# Altium schematic symbol library STM32F0.SchLib: 206 symbols
Pins are listed as number, name and electrical type; pins without a type are passive.

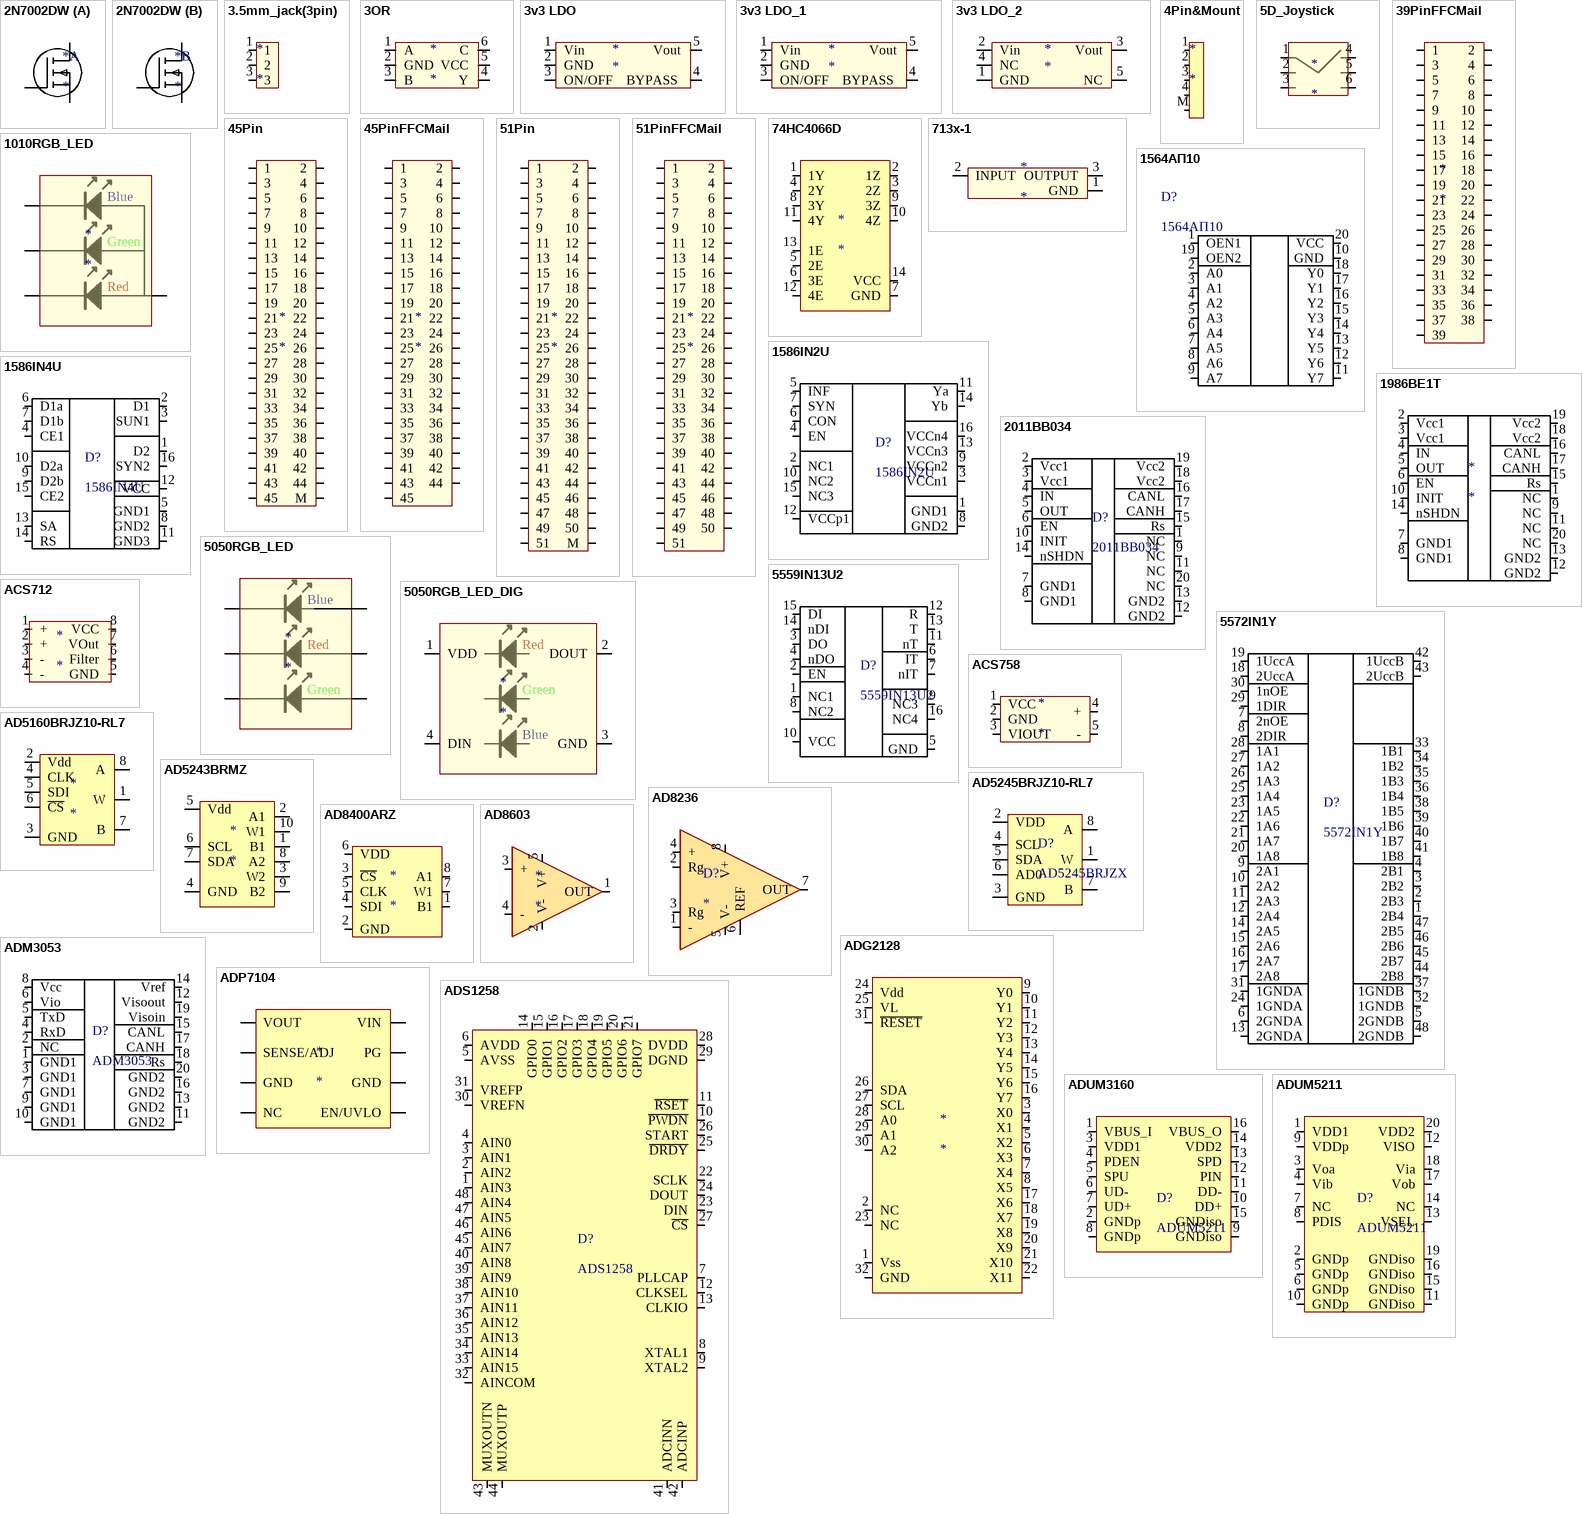
[diagram p0: symbols 2N7002DW to ADUM5211]

## 2N7002DW
designator *
footprint SOT-363
part A pins: 1 S, 2 G, 6 D
part B pins: 3 D, 4 S, 5 G

## 3.5mm_jack(3pin)
designator *
footprint 3.5mmJack(3pin)
pins: 1, 2, 3

## 3OR
designator *
footprint SOT23-6
pins: 1 A, 2 GND, 3 B, 4 Y, 5 VCC, 6 C

## 3v3 LDO
designator *
footprint SOT23-5
pins: 1 Vin, 2 GND, 3 ON/OFF, 4 BYPASS , 5 Vout

## 3v3 LDO_1
designator *
footprint SOT23-5
pins: 1 Vin, 2 GND, 3 ON/OFF, 4 BYPASS , 5 Vout

## 3v3 LDO_2
designator *
footprint SOT23-5
pins: 1 GND, 2 Vin, 3 Vout, 4 NC, 5 NC

## 4Pin&Mount
designator *
footprint FPC_V_05_4
pins: 1, 2, 3, 4, M 5

## 5D_Joystick
designator *
footprint 5D_Joystick
pins: 1 Com, 2 1, 3 2, 4, 5, 6

## 39PinFFCMail
designator *
footprint FFC_03_39_Mail
footprint FFC_0.3_39
pins: 1, 2, 3, 4, 5, 6, 7, 8, 9, 10, 11, 12, 13, 14, 15, 16, 17, 18, 19, 20, 21, 22, 23, 24, 25, 26, 27, 28, 29, 30, 31, 32, 33, 34, 35, 36, 37, 38, 39

## 45Pin
designator *
footprint FFC_0.3_45
pins: 1, 2, 3, 4, 5, 6, 7, 8, 9, 10, 11, 12, 13, 14, 15, 16, 17, 18, 19, 20, 21, 22, 23, 24, 25, 26, 27, 28, 29, 30, 31, 32, 33, 34, 35, 36, 37, 38, 39, 40, 41, 42, 43, 44, 45, M

## 45PinFFCMail
designator *
footprint FFC_03_45_Mail
pins: 1, 2, 3, 4, 5, 6, 7, 8, 9, 10, 11, 12, 13, 14, 15, 16, 17, 18, 19, 20, 21, 22, 23, 24, 25, 26, 27, 28, 29, 30, 31, 32, 33, 34, 35, 36, 37, 38, 39, 40, 41, 42, 43, 44, 45

## 51Pin
designator *
footprint FFC_0.3_51
pins: 1, 2, 3, 4, 5, 6, 7, 8, 9, 10, 11, 12, 13, 14, 15, 16, 17, 18, 19, 20, 21, 22, 23, 24, 25, 26, 27, 28, 29, 30, 31, 32, 33, 34, 35, 36, 37, 38, 39, 40, 41, 42, 43, 44, 45, 46, 47, 48, 49, 50, 51, M

## 51PinFFCMail
designator *
footprint FFC_03_51_Mail
pins: 1, 2, 3, 4, 5, 6, 7, 8, 9, 10, 11, 12, 13, 14, 15, 16, 17, 18, 19, 20, 21, 22, 23, 24, 25, 26, 27, 28, 29, 30, 31, 32, 33, 34, 35, 36, 37, 38, 39, 40, 41, 42, 43, 44, 45, 46, 47, 48, 49, 50, 51

## 74HC4066D
designator *
footprint TSSOP14
pins: 1 1Y, 2 1Z, 3 2Z, 4 2Y, 5 2E, 6 3E, 7 GND, 8 3Y, 9 3Z, 10 4Z, 11 4Y, 12 4E, 13 1E, 14 VCC

## 713x-1
designator *
footprint SOT89-BCE
pins: 1 GND, 2 INPUT, 3 OUTPUT

## 1010RGB_LED
designator *
footprint 1010RGB_Led
pins: 1, 2, 3, 4
text: Blue; Green; Red

## 1564АП10
designator D?
pins: 1 OEN1, 2 A0, 3 A1, 4 A2, 5 A3, 6 A4, 7 A5, 8 A6, 9 A7, 10 GND, 11 Y7, 12 Y6, 13 Y5, 14 Y4, 15 Y3, 16 Y2, 17 Y1, 18 Y0, 19 OEN2, 20 VCC

## 1586IN2U
designator D?
pins: 1 GND1, 2 NC1, 3 VCCn1, 4 EN, 5 INF, 6 CON, 7 SYN, 8 GND2, 9 VCCn2, 10 NC2, 11 Ya, 12 VCCp1, 13 VCCn3, 14 Yb, 15 NC3, 16 VCCn4

## 1586IN4U
designator D?
pins: 1 D2, 2 D1, 3 SUN1, 4 CE1, 5 GND1, 6 D1a, 7 D1b, 8 GND2, 9 D2b, 10 D2a, 11 GND3, 12 VCC, 13 SA, 14 RS, 15 CE2, 16 SYN2

## 1986ВЕ1Т
designator *
pins: 1 NC, 2 Vcc1, 3 Vcc1, 4 IN, 5 OUT, 6 EN, 7 GND1, 8 GND1, 9 NC, 10 INIT, 11 NC, 12 GND2, 13 GND2, 14 nSHDN, 15 Rs, 16 CANL, 17 CANH, 18 Vcc2, 19 Vcc2, 20 NC

## 2011BB034
designator D?
pins: 1 NC, 2 Vcc1, 3 Vcc1, 4 IN, 5 OUT, 6 EN, 7 GND1, 8 GND1, 9 NC, 10 INIT, 11 NC, 12 GND2, 13 GND2, 14 nSHDN, 15 Rs, 16 CANL, 17 CANH, 18 Vcc2, 19 Vcc2, 20 NC

## 5050RGB_LED
designator *
footprint RGB_5050
pins: 1, 2, 3, 4, 5, 6
text: Blue; Red; Green

## 5050RGB_LED_DIG
designator *
footprint RGB_5050_DIG
pins: 1 VDD, 2 DOUT, 3 GND, 4 DIN
text: Red; Green; Blue

## 5559IN13U2
designator D?
pins: 1 NC1, 2 EN, 3 DO, 4 nDO, 5 GND, 6 IT, 7 nIT, 8 NC2, 9 NC3, 10 VCC, 11 nT, 12 R, 13 T, 14 nDI, 15 DI, 16 NC4

## 5572IN1Y
designator D?
pins: 1 2B4, 2 2B3, 3 2B2, 4 2B1, 5 2GNDB, 6 2GNDA, 7 2nOE, 8 2DIR, 9 2A1, 10 2A2, 11 2A3, 12 2A4, 13 2GNDA, 14 2A5, 15 2A6, 16 2A7, 17 2A8, 18 2UccA, 19 1UccA, 20 1A8, 21 1A7, 22 1A6, 23 1A5, 24 1GNDA, 25 1A4, 26 1A3, 27 1A2, 28 1A1, 29 1DIR, 30 1nOE, 31 1GNDA, 32 1GNDB, 33 1B1, 34 1B2, 35 1B3, 36 1B4, 37 1GNDB, 38 1B5, 39 1B6, 40 1B7, 41 1B8, 42 1UccB, 43 2UccB, 44 2B8, 45 2B7, 46 2B6, 47 2B5, 48 2GNDB

## ACS712
designator *
footprint SO8
pins: 1 +, 2 +, 3 -, 4 -, 5 GND, 6 Filter, 7 VOut, 8 VCC

## ACS758
designator *
footprint PFF
pins: 1 VCC, 2 GND, 3 VIOUT, 4 +, 5 -

## AD5160BRJZ10-RL7
designator *
footprint SOT23-8
pins: 1 W, 2 Vdd, 3 GND, 4 CLK, 5 SDI, 6 ~{CS}, 7 B, 8 A

## AD5243BRMZ
designator *
footprint MSOP10
pins: 1 B1, 2 A1, 3 W2, 4 GND, 5 Vdd, 6 SCL, 7 SDA, 8 A2, 9 B2, 10 W1

## AD5245BRJZ10-RL7
designator D?, comment AD5245BRJZX
footprint SOT23-8
pins: 1 W, 2 VDD, 3 GND, 4 SCL, 5 SDA, 6 AD0, 7 B, 8 A

## AD8236
designator D?
footprint MSOP8
pins: 1 -, 2 Rg, 3 Rg, 4 +, 5 V-, 6 REF, 7 OUT, 8 V+

## AD8400ARZ
designator *
footprint SO8
pins: 1 B1, 2 GND, 3 ~{CS}, 4 SDI, 5 CLK, 6 VDD, 7 W1, 8 A1

## AD8603
designator *
footprint SOT23-5
pins: 1 OUT, 2 V-, 3 +, 4 -, 5 V+

## ADG2128
designator *
pins: 1 Vss, 2 NC, 3 X0, 4 X1, 5 X2, 6 X3, 7  X4, 8 X5, 9 Y0, 10 Y1, 11 Y2, 12 Y3, 13 Y4, 14 Y5, 15 Y6, 16 Y7, 17 X6, 18 X7, 19 X8, 20 X9, 21 X10, 22 X11, 23 NC, 24 Vdd, 25 VL, 26 SDA, 27 SCL, 28 A0, 29 A1, 30 A2, 31 ~{RESET}, 32 GND

## ADM3053
designator D?
pins: 1 GND1, 2 NC, 3 GND1, 4 RxD, 5 TxD, 6 Vio, 7 GND1, 8 Vcc, 9 GND1, 10 GND1, 11 GND2, 12 Visoout, 13 GND2, 14 Vref, 15 CANL, 16 GND2, 17 CANH, 18 Rs, 19 Visoin, 20 GND2

## ADP7104
designator *
footprint LFCSP8_3x3
pins: 1 VOUT, 2 SENSE/ADJ, 3 GND, 4 NC (power), 5 EN/UVLO, 6 GND, 7 PG, 8 VIN (power)

## ADS1258
designator D?
footprint PQFPN48
pins: 1 AIN3, 2 AIN2, 3 AIN1, 4 AIN0, 5 AVSS, 6 AVDD, 7 PLLCAP, 8 XTAL1, 9 XTAL2, 10 ~{PWDN}, 11 ~{RSET}, 12 CLKSEL, 13 CLKIO, 14 GPIO0, 15 GPIO1, 16 GPIO2, 17 GPIO3, 18 GPIO4, 19 GPIO5, 20 GPIO6, 21 GPIO7, 22 SCLK, 23 DIN, 24 DOUT, 25 ~{DRDY}, 26 START, 27 ~{CS}, 28 DVDD, 29 DGND, 30 VREFN, 31 VREFP, 32 AINCOM, 33 AIN15, 34 AIN14, 35 AIN13, 36 AIN12, 37 AIN11, 38 AIN10, 39 AIN9, 40 AIN8, 41 ADCINN, 42 ADCINP, 43 MUXOUTN, 44 MUXOUTP, 45 AIN7, 46 AIN6, 47 AIN5, 48 AIN4

## ADUM3160
designator D?, comment ADUM5211
footprint SO16W
pins: 1 VBUS_I, 2 GNDp, 3 VDD1, 4 PDEN, 5 SPU, 6 UD-, 7 UD+, 8 GNDp, 9 GNDiso, 10 DD+, 11 DD-, 12 PIN, 13 SPD, 14 VDD2, 15 GNDiso, 16 VBUS_O

## ADUM5211
designator D?
footprint SSOP-20
pins: 1 VDD1, 2 GNDp, 3 Voa, 4 Vib, 5 GNDp, 6 GNDp, 7 NC, 8 PDIS, 9 VDDp, 10 GNDp, 11 GNDiso, 12 VISO, 13 VSEL, 14 NC, 15 GNDiso, 16 GNDiso, 17 Vob, 18 Via, 19 GNDiso, 20 VDD2

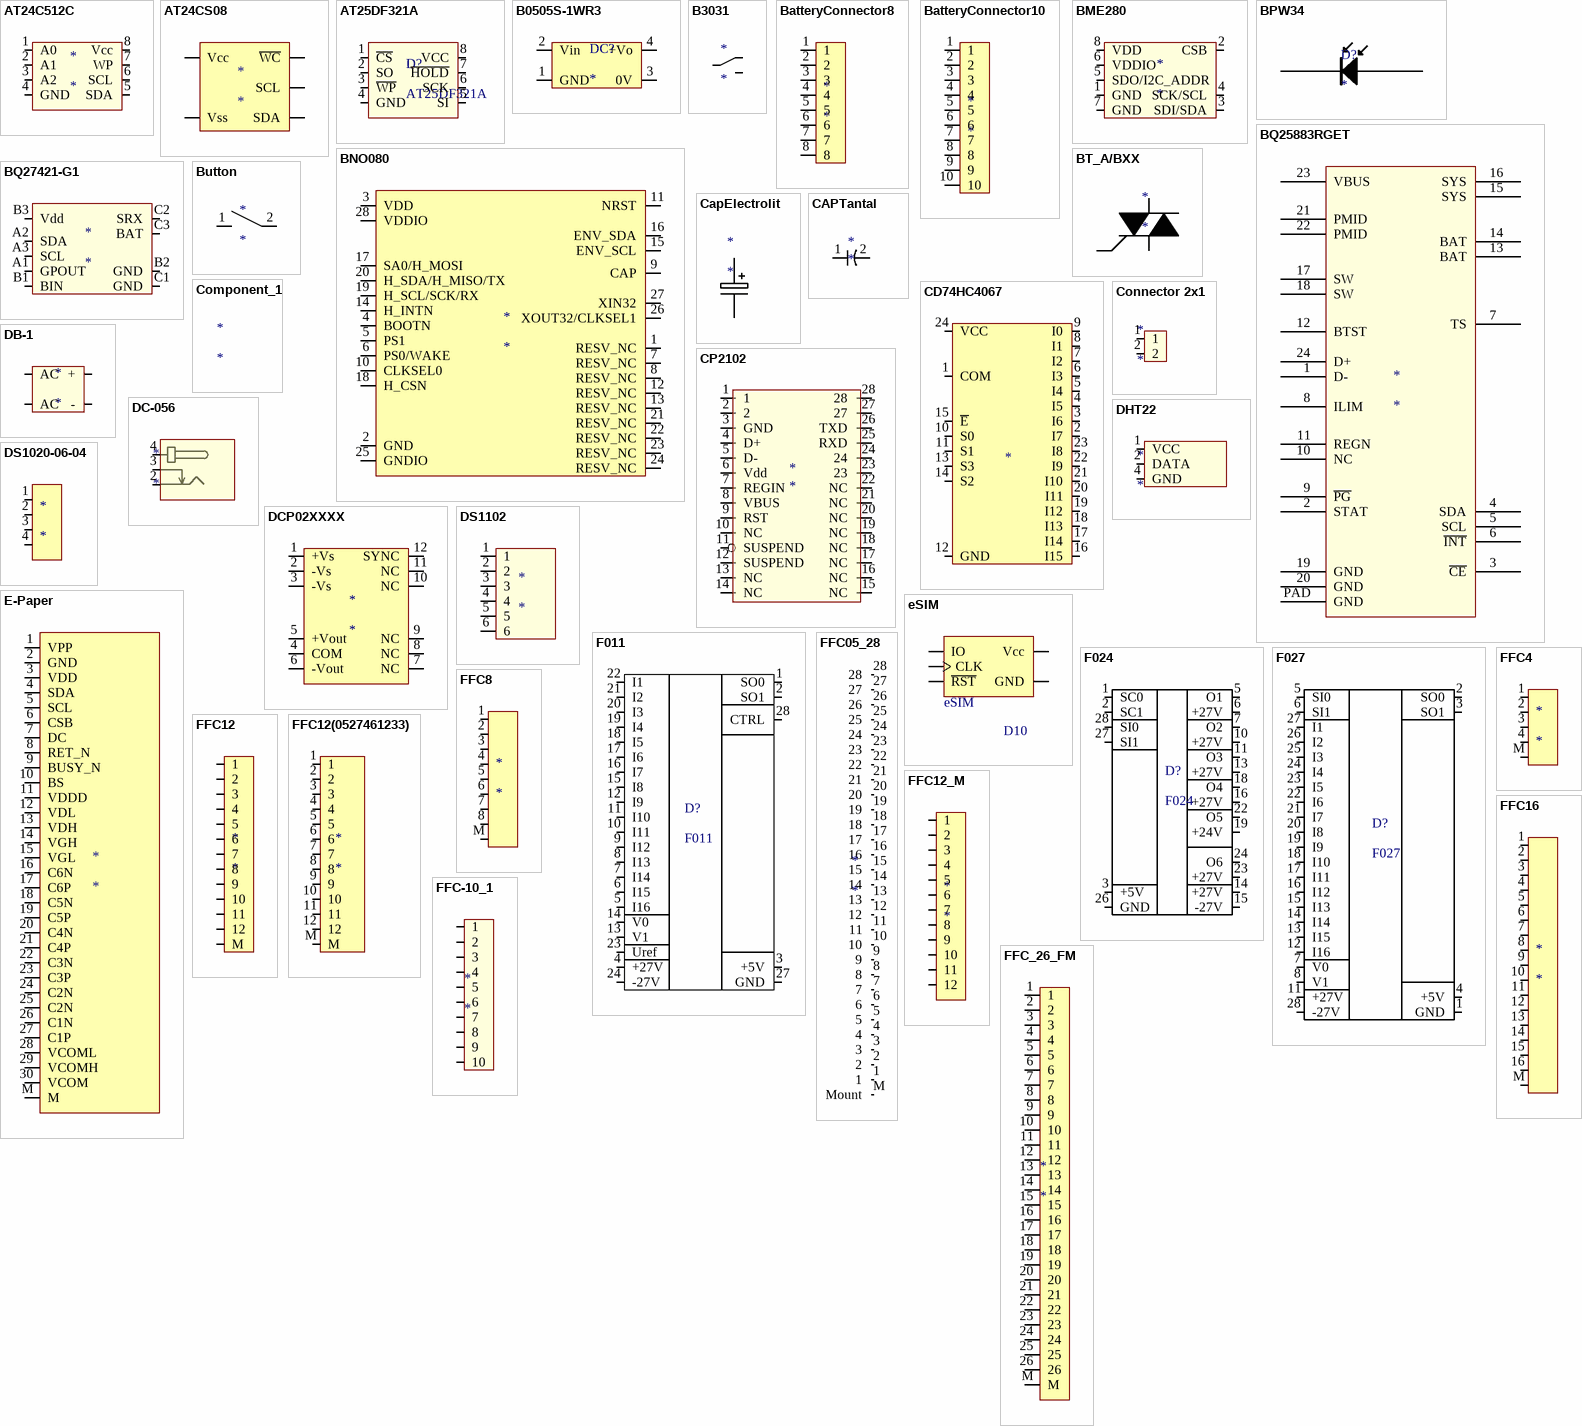
[diagram p1: symbols AT24C512C to FFC_26_FM]

## AT24C512C
designator *
footprint SO8
pins: 1 A0, 2 A1, 3 A2, 4 GND, 5 SDA, 6 SCL, 7 WP, 8 Vcc

## AT24CS08
designator *
pins: 4 Vss (power), 5 SDA, 6 SCL, 7 ~{WC}, 8 Vcc (power)

## AT25DF321A
designator D?
footprint SO8
pins: 1 ~{CS}, 2 SO, 3 ~{WP}, 4 GND, 5 SI, 6 SCK, 7 ~{HOLD}, 8 VCC

## B0505S-1WR3
designator DC?
footprint DC-DC-1WR
pins: 1 GND, 2 Vin, 3 0V, 4 +Vo

## B3031
designator *
footprint B3031
pins: 0, 1, 2

## BatteryConnector8
designator *
footprint BatteryConnector 8
pins: 1, 2, 3, 4, 5, 6, 7, 8

## BatteryConnector10
designator *
footprint BatteryConnector 10
pins: 1, 2, 3, 4, 5, 6, 7, 8, 9, 10

## BME280
designator *
footprint BME280
pins: 1 GND, 2 CSB, 3 SDI/SDA, 4 SCK/SCL, 5 SDO/I2C_ADDR, 6 VDDIO, 7 GND, 8 VDD

## BNO080
designator *
footprint LGA28
pins: 1 RESV_NC, 2 GND, 3 VDD, 4 BOOTN, 5 PS1, 6 PS0/WAKE, 7 RESV_NC, 8 RESV_NC, 9 CAP, 10 CLKSEL0, 11 NRST, 12 RESV_NC, 13 RESV_NC, 14 H_INTN, 15 ENV_SCL, 16 ENV_SDA, 17 SA0/H_MOSI, 18 H_CSN, 19 H_SCL/SCK/RX, 20 H_SDA/H_MISO/TX, 21 RESV_NC, 22 RESV_NC, 23 RESV_NC, 24 RESV_NC, 25 GNDIO, 26 XOUT32/CLKSEL1, 27 XIN32, 28 VDDIO

## BPW34
designator D?
footprint BPW34
pins: +, -

## BQ25883RGET
designator *
footprint VQFN24
pins: 1 D-, 2 STAT, 3 ~{CE}, 4 SDA, 5 SCL, 6 ~{INT}, 7 TS, 8 ILIM, 9 ~{PG}, 10 NC, 11 REGN, 12 BTST, 13 BAT, 14 BAT, 15 SYS, 16 SYS, 17 SW, 18 SW, 19 GND, 20 GND, 21 PMID, 22 PMID, 23 VBUS, 24 D+, PAD GND

## BQ27421-G1
designator *
footprint DSBGA9
pins: A1 GPOUT, A2 SDA, A3 SCL, B1 BIN, B2 GND, B3 Vdd, C1 GND, C2 SRX, C3 BAT

## BT_A/BXX
designator *
footprint TO-220V
footprint TO-220VO
pins: 1, 2, 3

## Button
designator *
footprint KLS7-TS6606
footprint FlexButton
footprint FlexButton_2mm
footprint Button 3x2x0.6
pins: 1, 2

## CapElectrolit
designator *
footprint CAP4x7
footprint CAP8x11.5
footprint CAP5x11
footprint CAP3050
pins: +, -

## CAPTantal
designator *
footprint CAPTantalum_D
footprint CAPTantalum_C
pins: 1, 2

## CD74HC4067
designator ?
footprint SO24
pins: 1 COM, 2 I7, 3 I6, 4 I5, 5 I4, 6 I3, 7 I2, 8 I1, 9 I0, 10 S0, 11 S1, 12 GND, 13 S3, 14 S2, 15 ~{E}, 16 I15, 17 I14, 18 I13, 19 I12, 20 I11, 21 I10, 22 I9, 23 I8, 24 VCC

## Component_1
designator *

## Connector 2x1
designator *
footprint AWG350-021-14
footprint DS1073-01-2x1-MR2T6
footprint DG390-5.0-02P
pins: 1, 2

## CP2102
designator *
footprint CP2102
pins: 1, 2, 3 GND, 4 D+, 5 D-, 6 Vdd, 7 REGIN, 8 VBUS, 9 RST, 10 NC, 11 SUSPEND, 12 SUSPEND, 13 NC, 14 NC, 15 NC, 16 NC, 17 NC, 18 NC, 19 NC, 20 NC, 21 NC, 22 NC, 23, 24, 25 RXD, 26 TXD, 27, 28

## DB-1
designator *
footprint DB-1
pins: +, -, AC1 AC, AC2 AC

## DC-056
designator *
footprint DC-056
pins: 2 -, 3, 4 +

## DCP02XXXX
designator *
footprint DCP02XXXXU
pins: 1 +Vs, 2 -Vs, 3 -Vs, 4 COM, 5 +Vout, 6 -Vout, 7 NC, 8 NC, 9 NC, 10 NC, 11 NC, 12 SYNC

## DHT22
designator *
footprint DHT22
pins: 1 VCC, 2 DATA, 4 GND

## DS1020-06-04
designator *
footprint DS1020
pins: 1, 2, 3, 4

## DS1102
designator *
footprint DS1102
pins: 1, 2, 3, 4, 5, 6

## E-Paper
designator *
footprint E-Paper(Flip)
pins: 1 VPP, 2 GND, 3 VDD, 4 SDA, 5 SCL, 6 CSB, 7 DC, 8 RET_N, 9 BUSY_N, 10 BS, 11 VDDD, 12 VDL, 13 VDH, 14 VGH, 15 VGL, 16 C6N, 17 C6P, 18 C5N, 19 C5P, 20 C4N, 21 C4P, 22 C3N, 23 C3P, 24 C2N, 25 C2N, 26 C1N, 27 C1P, 28 VCOML, 29 VCOMH, 30 VCOM, M

## eSIM
designator D10  Part_number: eSIM
IC Other eSIM; Manufacturer: Beeline; Montage: SMD; Class: Other; Family: IC; Package: WSON8_6x5
footprint WSON8_6x5 (WSON, 8-Leads, Body 6x5mm, Pitch 1.27mm, Thermal Pad 3.4x4.3mm)
pins: 1 GND (power), 3 IO, 6 CLK, 7 ~{RST}, 8 Vcc (power)

## F011
designator D?
pins: 1 SO0, 2 SO1, 3 +5V, 4 +27V, 5 I16, 6 I15, 7 I14, 8 I13, 9 I12, 10 I11, 11 I10, 12 I9, 13 V1, 14 V0, 15 I8, 16 I7, 17 I6, 18 I5, 19 I4, 20 I3, 21 I2, 22 I1, 23 Uref, 24 -27V, 27 GND, 28 CTRL

## F024
designator D?
pins: 1 SC0, 2 SC1, 3 +5V, 5 O1, 6 +27V, 7 O2, 10 +27V, 11 O3, 13 +27V, 14 +27V, 15 -27V, 16 +27V, 18 O4, 19 +24V, 22 O5, 23 +27V, 24 O6, 26 GND, 27 SI1, 28 SI0

## F027
designator D?
pins: 1 GND, 2 SO0, 3 SO1, 4 +5V, 5 SI0, 6 SI1, 7 V0, 8 V1, 11 +27V, 12 I16, 13 I15, 14 I14, 15 I13, 16 I12, 17 I11, 18 I10, 19 I9, 20 I8, 21 I7, 22 I6, 23 I5, 24 I4, 25 I3, 26 I2, 27 I1, 28 -27V

## FFC4
designator *
footprint FFC_B_4_05
pins: 1, 2, 3, 4, M

## FFC05_28
designator *
footprint FFC05_28
pins: 1, 2, 3, 4, 5, 6, 7, 8, 9, 10, 11, 12, 13, 14, 15, 16, 17, 18, 19, 20, 21, 22, 23, 24, 25, 26, 27, 28, M Mount

## FFC8
designator *
footprint FFC_B_8_05
pins: 1, 2, 3, 4, 5, 6, 7, 8, M

## FFC12
designator *
footprint FFC12_05
pins: 1, 2, 3, 4, 5, 6, 7, 8, 9, 10, 11, 12, M

## FFC12(0527461233)
designator *
footprint FFC12(0527461233) (Molex 0527461233)
pins: 1, 2, 3, 4, 5, 6, 7, 8, 9, 10, 11, 12, M

## FFC12_M
designator *
footprint FFC_M_12
pins: 1, 2, 3, 4, 5, 6, 7, 8, 9, 10, 11, 12

## FFC16
designator *
footprint FFC_B_16_05
pins: 1, 2, 3, 4, 5, 6, 7, 8, 9, 10, 11, 12, 13, 14, 15, 16, M

## FFC-10_1
designator *
footprint FFC-10_1
footprint JST-SM10B
pins: 1, 2, 3, 4, 5, 6, 7, 8, 9, 10

## FFC_26_FM
designator *
footprint 5034802600
pins: 1, 2, 3, 4, 5, 6, 7, 8, 9, 10, 11, 12, 13, 14, 15, 16, 17, 18, 19, 20, 21, 22, 23, 24, 25, 26, M

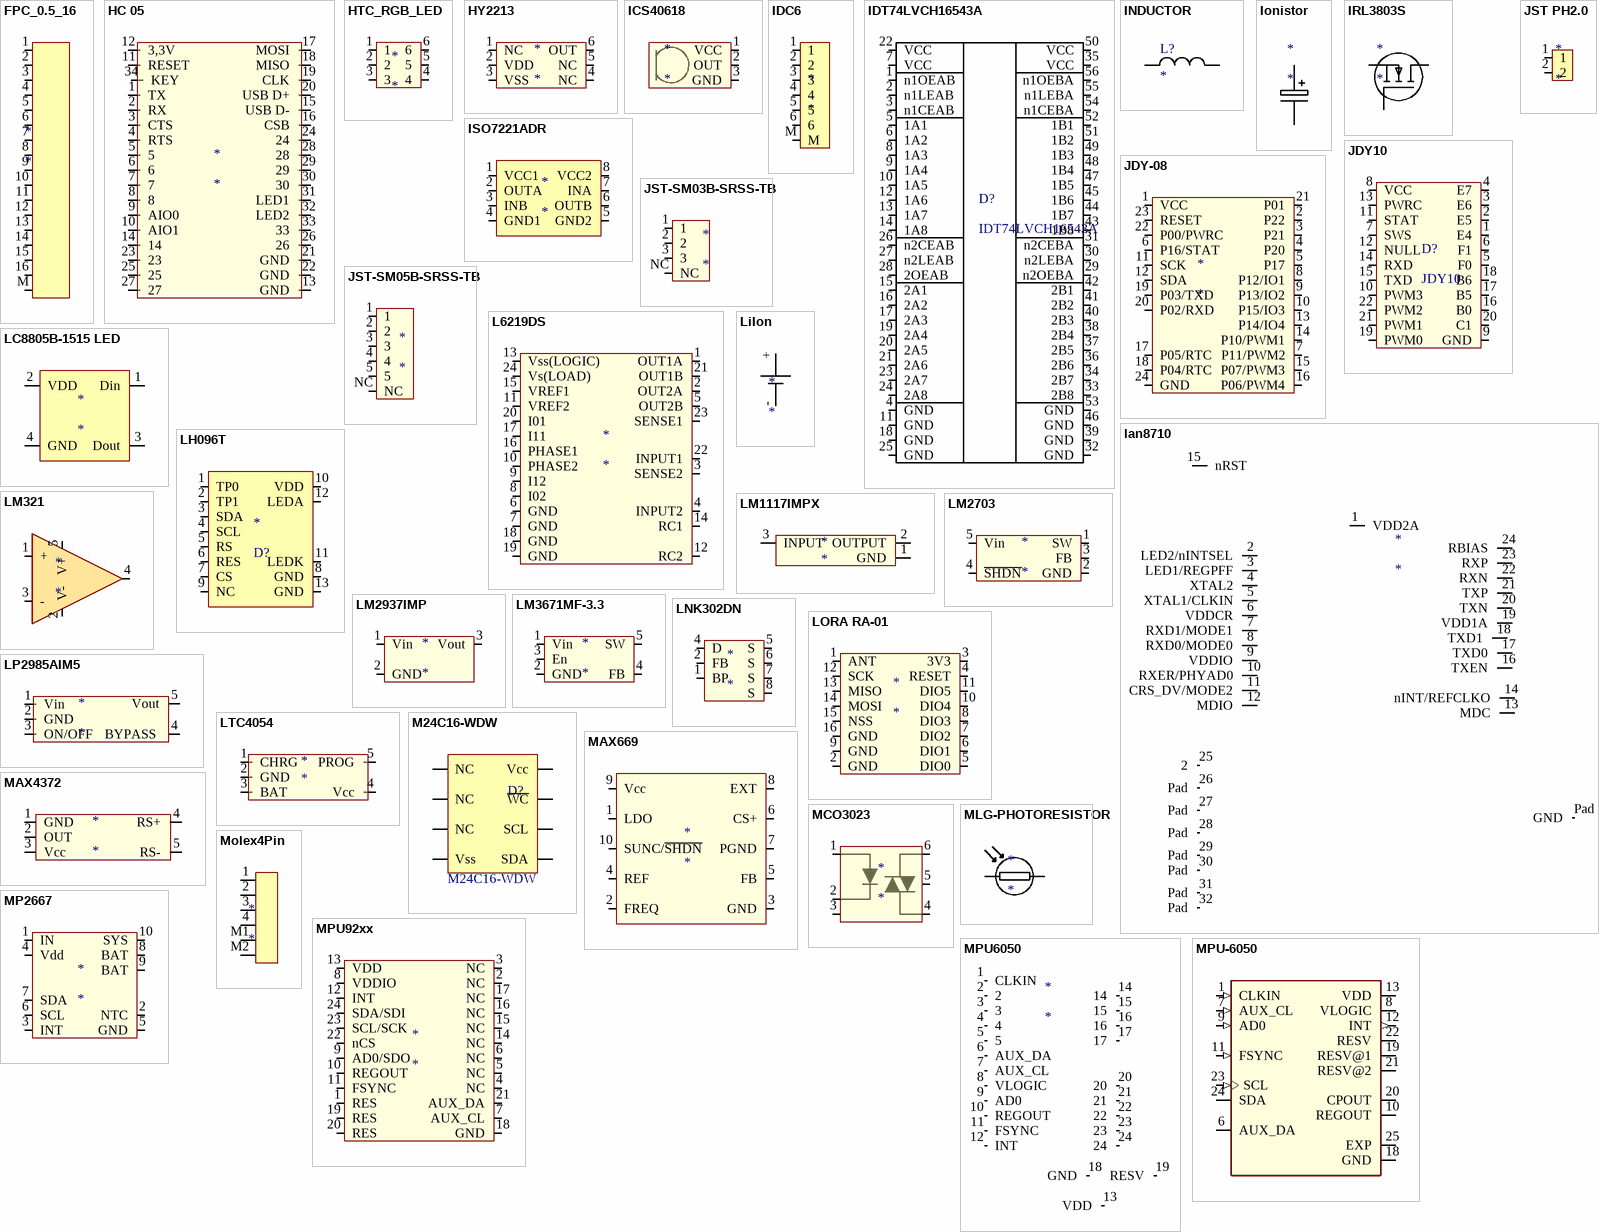
[diagram p2: symbols FPC_0.5_16 to MPU-6050]

## FPC_0.5_16
designator *
footprint FPC_0.5_16
pins: 1, 2, 3, 4, 5, 6, 7, 8, 9, 10, 11, 12, 13, 14, 15, 16, M 5

## HC 05
designator *
footprint HC-06
pins: 1 TX, 2 RX, 3 CTS, 4 RTS, 5, 6, 7, 8, 9 AIO0, 10 AIO1, 11 RESET, 12 3,3V, 13 GND, 14, 15 USB D-, 16 CSB, 17 MOSI, 18 MISO, 19 CLK, 20 USB D+, 21 GND, 22 GND, 23, 24, 25, 26, 27, 28, 29, 30, 31 LED1, 32 LED2, 33, 34 KEY

## HTC_RGB_LED
designator *
footprint HTC_RGB_LED
pins: 1, 2, 3, 4, 5, 6

## HY2213
designator *
footprint SOT23-6
pins: 1 NC, 2 VDD, 3 VSS, 4 NC, 5 NC, 6 OUT

## ICS40618
designator *
footprint ICS40618
pins: 1 VCC, 2 OUT, 3 GND

## IDC6
designator *
footprint IDC6 (Molex 0532610671)
pins: 1, 2, 3, 4, 5, 6, M

## IDT74LVCH16543A
designator D?
pins: 1 n1OEAB, 2 n1LEAB, 3 n1CEAB, 4 GND, 5 1A1, 6 1A2, 7 VCC, 8 1A3, 9 1A4, 10 1A5, 11 GND, 12 1A6, 13 1A7, 14 1A8, 15 2A1, 16 2A2, 17 2A3, 18 GND, 19 2A4, 20 2A5, 21 2A6, 22 VCC, 23 2A7, 24 2A8, 25 GND, 26 n2CEAB, 27 n2LEAB, 28 2OEAB, 29 n2OEBA, 30 n2LEBA, 31 n2CEBA, 32 GND, 33 2B8, 34 2B7, 35 VCC, 36 2B6, 37 2B5, 38 2B4, 39 GND, 40 2B3, 41 2B2, 42 2B1, 43 1B8, 44 1B7, 45 1B6, 46 GND, 47 1B5, 48 1B4, 49 1B3, 50 VCC, 51 1B2, 52 1B1, 53 GND, 54 n1CEBA, 55 n1LEBA, 56 n1OEBA

## INDUCTOR
designator L?
INDUCTOR
footprint 0603L (CAPACITOR 0603)
footprint WE-LHMI
footprint 0402L
footprint ELC09DXXXX
footprint 0805L (CAPACITOR 0805)
footprint 1210
footprint 12.8x12.8_INDUCTOR
footprint 0420CDMCC/DS
footprint SRN3015
footprint L1812
footprint VLS201610CX
pins: 1, 2

## Ionistor
designator *
footprint DCS-5R5-H
pins: +, -

## IRL3803S
designator *
footprint DPAK
footprint SO8MOSFET
pins: 1, 2, 3

## ISO7221ADR
designator *
footprint SO8
pins: 1 VCC1, 2 OUTA, 3 INB, 4 GND1, 5 GND2, 6 OUTB, 7 INA, 8 VCC2

## JDY10
designator D?
footprint JDY10
pins: 1 E4, 2 E5, 3 E6, 4 E7, 5 F0, 6 F1, 7 SWS, 8 VCC, 9 GND, 10 PWM3, 11 STAT, 12 NULL, 13 PWRC, 14 RXD, 15 TXD, 16 B0, 17 B5, 18 B6, 19 PWM0, 20 C1, 21 PWM1, 22 PWM2

## JDY-08
designator *
footprint JDY08
pins: 1 VCC, 2 P22, 3 P21, 4 P20, 5 P17, 6 P16/STAT, 7 P11/PWM2, 8 P12/IO1, 9 P13/IO2, 10 P15/IO3, 11 SCK, 12 SDA, 13 P14/IO4, 14 P10/PWM1, 15 P07/PWM3, 16 P06/PWM4, 17 P05/RTC, 18 P04/RTC, 19 P03/TXD, 20 P02/RXD, 21 P01, 22 P00/PWRC, 23 RESET, 24 GND

## JST PH2.0
designator *
footprint JST_PH2.0
pins: 1, 2

## JST-SM03B-SRSS-TB
designator *
footprint JST-SM03B
pins: 1, 2, 3, NC

## JST-SM05B-SRSS-TB
designator *
footprint JST-SM05B
pins: 1, 2, 3, 4, 5, NC

## L6219DS
designator *
footprint L6219DS
footprint L6219DS
pins: 1 OUT1A, 2 OUT2A, 3 SENSE2, 4 INPUT2, 5 OUT2B, 6 GND, 7 GND, 8 I02, 9 I12, 10 PHASE2, 11 VREF2, 12 RC2, 13 Vss(LOGIC), 14 RC1, 15 VREF1, 16 PHASE1, 17 I11, 18 GND, 19 GND, 20 I01, 21 OUT1B, 22 INPUT1, 23 SENSE1, 24 Vs(LOAD)

## lan8710
designator *
pins: 1 VDD2A, 2 LED2/nINTSEL, 3 LED1/REGPFF, 4 XTAL2, 5 XTAL1/CLKIN, 6 VDDCR, 7 RXD1/MODE1, 8 RXD0/MODE0, 9 VDDIO, 10 RXER/PHYAD0, 11 CRS_DV/MODE2, 12 MDIO, 13 MDC, 14 nINT/REFCLKO, 15 nRST, 16 TXEN, 17 TXD0, 18 TXD1, 19 VDD1A, 20 TXN, 21 TXP, 22 RXN, 23 RXP, 24 RBIAS, 25 2, 26 Pad, 27 Pad, 28 Pad, 29 Pad, 30 Pad, 31 Pad, 32 Pad, Pad GND

## LC8805B-1515 LED
designator *
footprint RGB_1515
pins: 1 Din, 2 VDD, 3 Dout, 4 GND

## LH096T
designator *, comment D?
footprint LH096T
pins: 1 TP0, 2 TP1, 3 SDA, 4 SCL, 5 RS, 6 RES, 7 CS, 8 GND, 9 NC, 10 VDD, 11 LEDK, 12 LEDA, 13 GND

## LiIon
designator *
footprint LiIon
footprint LIION_multy
pins: +, -

## LM321
designator *
footprint SOT23-5
pins: 1 +, 2 V-, 3 -, 4, 5 V+

## LM1117IMPX
designator *
footprint LM1117IMPX
pins: 1 GND, 2 OUTPUT, 3 INPUT

## LM2703
designator *
footprint SOT23-5
pins: 1 SW, 2 GND, 3 FB, 4 ~{SHDN}, 5 Vin

## LM2937IMP
designator *
footprint LM1117IMPX
pins: 1 Vin, 2 GND, 3 Vout

## LM3671MF-3.3
designator *
footprint SOT23-5
pins: 1 Vin, 2 GND, 3 En, 4 FB, 5 SW

## LNK302DN
designator *
footprint SO8C
pins: 1 BP, 2 FB, 4 D, 5 S, 6 S, 7 S, 8 S

## LORA RA-01
designator *
SX1278
footprint RA-01
pins: 1 ANT, 2 GND, 3 3V3, 4 RESET, 5 DIO0, 6 DIO1, 7 DIO2, 8 DIO3, 9 GND, 10 DIO4, 11 DIO5, 12 SCK, 13 MISO, 14 MOSI, 15 NSS, 16 GND

## LP2985AIM5
designator *
footprint SOT23-5
pins: 1 Vin, 2 GND, 3 ON/OFF, 4 BYPASS , 5 Vout

## LTC4054
designator *
footprint SOT23-5
pins: 1 CHRG, 2 GND, 3 BAT, 4 Vcc, 5 PROG

## M24C16-WDW
designator D?  Part_number: M24C16-WDW
IC Memory M24C16-WDW; Manufacturer: STMicroelectronics; Montage: SMD; Class: Memory; Family: IC; Package: TSSOP8
footprint TSSOP8
footprint DFN8 2x3mm
pins: 1 NC, 2 NC, 3 NC, 4 Vss (power), 5 SDA, 6 SCL, 7 ~{WC}, 8 Vcc (power)

## MAX669
designator *
footprint uMAX10
pins: 1 LDO, 2 FREQ, 3 GND, 4 REF, 5 FB, 6 CS+, 7 PGND, 8 EXT, 9 Vcc, 10 SUNC/~{SHDN}

## MAX4372
designator *
footprint SOT23-5
pins: 1 GND, 2 OUT, 3 Vcc, 4 RS+, 5 RS-

## MCO3023
designator *
footprint DIP6 SMD
pins: 1, 2, 3, 4, 5, 6

## MLG-PHOTORESISTOR
designator *
footprint MLG55XX
pins: 1, 2

## Molex4Pin
designator *
footprint MOLEX_SMD_4PIN
pins: 1, 2, 3, 4, M1, M2

## MP2667
designator *
footprint QFN10(2x2)
pins: 1 IN, 2 NTC, 3 INT, 4 Vdd, 5 GND, 6 SCL, 7 SDA, 8 BAT, 9 BAT, 10 SYS

## MPU92xx
designator *
footprint QFN24_3x3
pins: 1 RES, 2 NC, 3 NC, 4 NC, 5 NC, 6 NC, 7 AUX_CL, 8 VDDIO, 9 AD0/SDO, 10 REGOUT, 11 FSYNC, 12 INT, 13 VDD, 14 NC, 15 NC, 16 NC, 17 NC, 18 GND, 19 RES, 20 RES, 21 AUX_DA, 22 nCS, 23 SCL/SCK, 24 SDA/SDI

## MPU6050
designator *
pins: 1 CLKIN, 2, 3, 4, 5, 6 AUX_DA, 7 AUX_CL, 8 VLOGIC, 9 AD0, 10 REGOUT, 11 FSYNC, 12 INT, 13 VDD, 14, 15, 16, 17, 18 GND, 19 RESV, 20, 21, 22, 23, 24

## MPU-6050
designator U?  (value not drawn)
3-axis gyroscope, 3-axis accelerometer in a 4x4x0.9 housing; MF: InvenSense; MP: MPU-6050; Price: 7.23 USD; Availability: Good; Package: QFN-24 InvenSense; Value: *
footprint QFN50P400X400X95-25N
pins: 1 CLKIN (in), 6 AUX_DA (io), 7 AUX_CL (in), 8 VLOGIC (power), 9 AD0 (in), 10 REGOUT, 11 FSYNC (in), 12 INT (out), 13 VDD (power), 18 GND (power), 19 RESV@1, 20 CPOUT, 21 RESV@2, 22 RESV, 23 SCL (in), 24 SDA (io), 25 EXP (power)

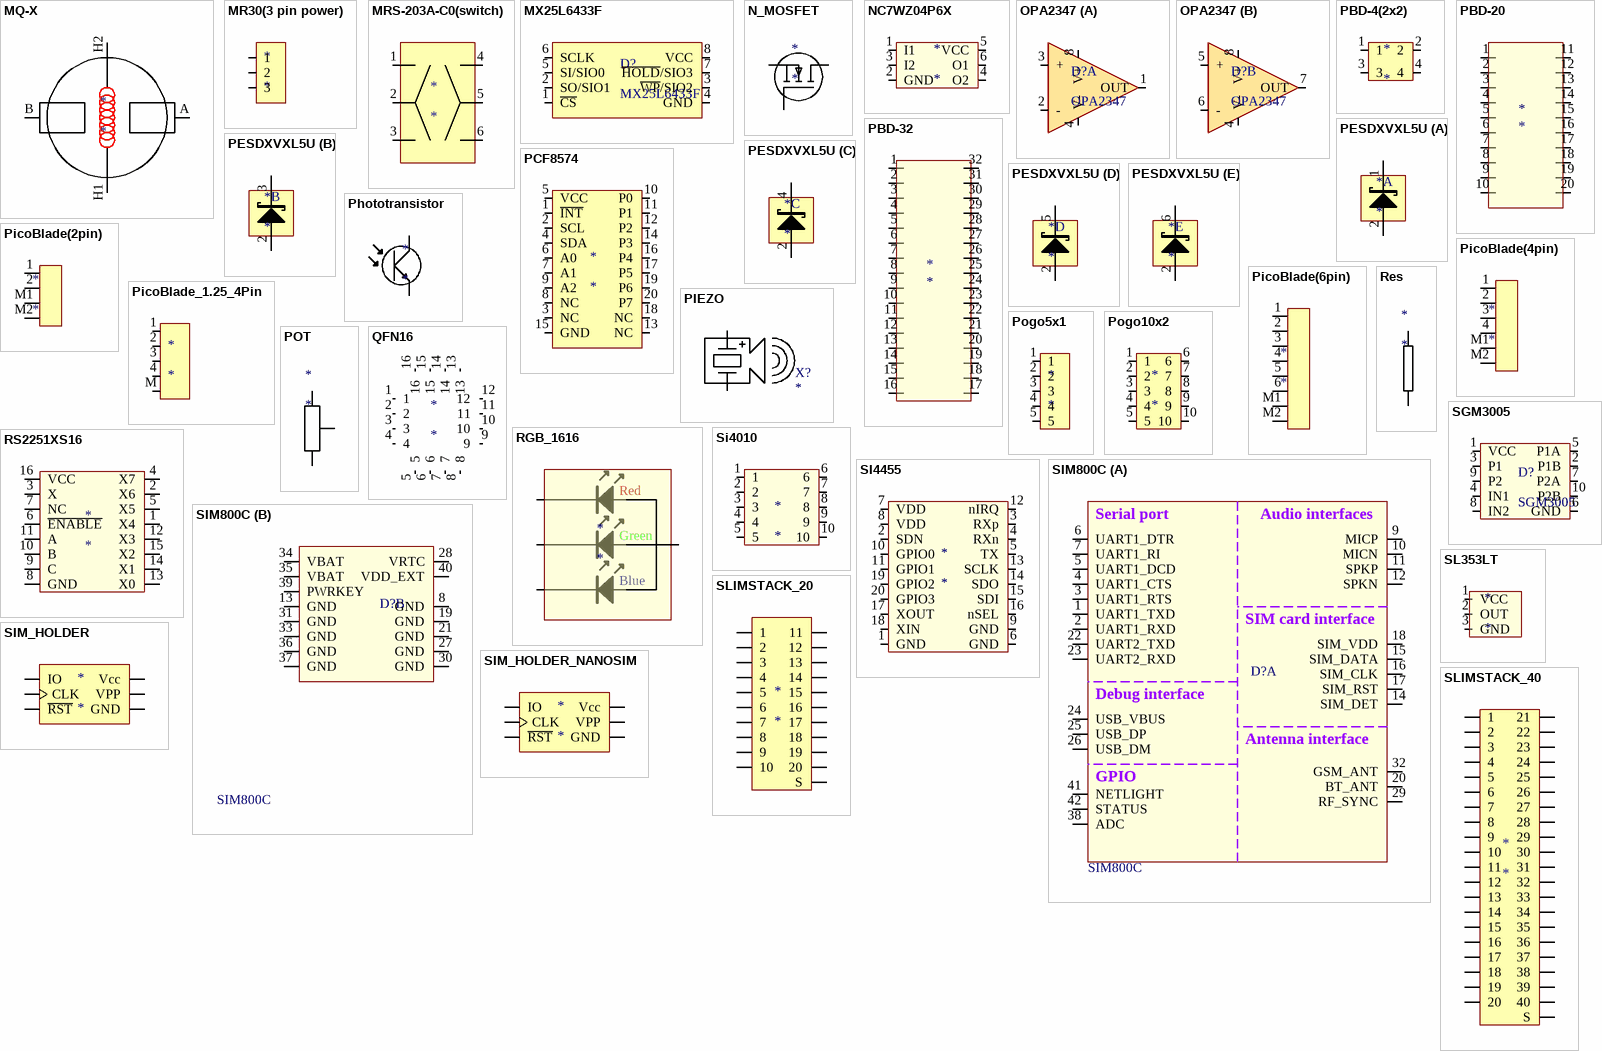
[diagram p3: symbols MQ-X to SLIMSTACK_40]

## MQ-X
designator *
footprint MQ-X
pins: A, B, H1 1, H2

## MR30(3 pin power)
designator *
footprint MR30-FB(Hor1)
footprint MR30-M(Hor1)
footprint MR30-M(Ver1)
footprint MR30-M(Ver2)
pins: 1, 2, 3

## MRS-203A-C0(switch)
designator *
footprint MRS-203A-C0(switch)
pins: 1, 2, 3, 4, 5, 6

## MX25L6433F
designator D?
footprint WSON8_6x5 (WSON, 8-Leads, Body 6x5mm, Pitch 1.27mm, Thermal Pad 3.4x4.3mm)
pins: 1 ~{CS}, 2 SO/SIO1, 3 ~{WP}/SIO2, 4 GND, 5 SI/SIO0, 6 SCLK, 7 ~{HOLD}/SIO3, 8 VCC

## N_MOSFET
designator *
footprint PQFN 2x2
pins: D, G, S

## NC7WZ04P6X
designator *
footprint SOT23-6
pins: 1 I1, 2 GND, 3 I2, 4 O2, 5 VCC, 6 O1

## OPA2347
designator D?
footprint SOT23-8
part A pins: 1 OUT, 2 -, 3 +, 4 V-, 8 V+
part B pins: 4 V-, 5 +, 6 -, 7 OUT, 8 V+

## PBD-4(2x2)
designator *
footprint PBD-4(1.27,2x2,V,SMD)
pins: 1, 2, 3, 4

## PBD-20
designator *
footprint PBD-20
pins: 1, 2, 3, 4, 5, 6, 7, 8, 9, 10, 11, 12, 13, 14, 15, 16, 17, 18, 19, 20

## PBD-32
designator *
footprint PBD-32
pins: 1, 2, 3, 4, 5, 6, 7, 8, 9, 10, 11, 12, 13, 14, 15, 16, 17, 18, 19, 20, 21, 22, 23, 24, 25, 26, 27, 28, 29, 30, 31, 32

## PCF8574
designator *
footprint TSSOP20
pins: 1 ~{INT}, 2 SCL, 3 NC, 4 SDA, 5 VCC, 6 A0, 7 A1, 8 NC, 9 A2, 10 P0, 11 P1, 12 P2, 13 NC, 14 P3, 15 GND, 16 P4, 17 P5, 18 NC, 19 P6, 20 P7

## PESDXVXL5U
designator *
footprint SOT-363
footprint SOT886 (XSON6)
part A pins: 1 +, 2 -
part B pins: 2 -, 3 +
part C pins: 2 -, 4 +
part D pins: 2 -, 5 +
part E pins: 2 -, 6 +

## Phototransistor
designator *
footprint 0603L (CAPACITOR 0603)
pins: 1, 2

## PicoBlade(2pin)
designator *
footprint PicoBlade 533984002
pins: 1, 2, M1, M2

## PicoBlade(4pin)
designator *
footprint PicoBlade 533984004
pins: 1, 2, 3, 4, M1, M2

## PicoBlade(6pin)
designator *
footprint PicoBlade 533984006
pins: 1, 2, 3, 4, 5, 6, M1, M2

## PicoBlade_1.25_4Pin
designator *
footprint PicoBlade_1.25_4Pin
pins: 1, 2, 3, 4, M 5

## PIEZO
designator X?
piezo buzzer; Supplier 1: Digi-Key; Supplier Part Number 1: 102-1267-2-ND
footprint PIEZO-CT-1205
footprint HC09XXA
footprint DET402
pins: +, -

## Pogo5x1
designator *
footprint 5x1Pin PoGo 1.5mm
pins: 1, 2, 3, 4, 5

## Pogo10x2
designator *
footprint 5x2 Pin PoGo 1.5mm
pins: 1, 2, 3, 4, 5, 6, 7, 8, 9, 10

## POT
designator *
footprint 3224W
footprint Bourns 3314G
pins: 1, 2, 3

## QFN16
designator *
footprint QFN16_3_3
pins: 1, 2, 3, 4, 5, 6, 7, 8, 9, 10, 11, 12, 13, 14, 15, 16

## Res
designator *
footprint Res2W
footprint RES1W
footprint 1210R
pins: 1, 2

## RGB_1616
designator *
footprint RGB_1616
pins: 1, 2, 3, 4
text: Red; Green; Blue

## RS2251XS16
designator *
footprint SOIC16
pins: 1 X4, 2 X6, 3 X, 4 X7, 5 X5, 6 ~{ENABLE}, 7 NC, 8 GND, 9 C, 10 B, 11 A, 12 X3, 13 X0, 14 X1, 15 X2, 16 VCC

## SGM3005
designator D?
footprint MSOP10
footprint MSOP10
pins: 1 VCC, 2 P1B, 3 P1, 4 IN1, 5 P1A, 6 GND, 7 P2A, 8 IN2, 9 P2, 10 P2B

## Si4010
designator *
footprint MSOP10
pins: 1, 2, 3, 4, 5, 6, 7, 8, 9, 10

## SI4455
designator *
footprint QFN20
pins: 1 GND, 2 SDN, 3 RXp, 4 RXn, 5 TX, 6 GND, 7 VDD, 8 VDD, 9 GND, 10 GPIO0, 11 GPIO1, 12 nIRQ, 13 SCLK, 14 SDO, 15 SDI, 16 nSEL, 17 XOUT, 18 XIN, 19 GPIO2, 20 GPIO3

## SIM800C
designator D?  Part_number: SIM800C
IC Converter SIM800C; Manufacturer: SimCom; Montage: SMD; Class: Converter; Family: IC; Package: SIM800C
footprint SIM800C (SIM800C modem)
part A pins: 1 UART1_TXD, 2 UART1_RXD, 3 UART1_RTS, 4 UART1_CTS, 5 UART1_DCD, 6 UART1_DTR, 7 UART1_RI, 9 MICP, 10 MICN, 11 SPKP, 12 SPKN, 14 SIM_DET, 15 SIM_DATA, 16 SIM_CLK, 17 SIM_RST, 18 SIM_VDD, 20 BT_ANT, 22 UART2_TXD, 23 UART2_RXD, 24 USB_VBUS, 25 USB_DP, 26 USB_DM, 29 RF_SYNC, 32 GSM_ANT, 38 ADC, 41 NETLIGHT, 42 STATUS
part B pins: 8 GND (power), 13 GND (power), 19 GND (power), 21 GND (power), 27 GND (power), 28 VRTC (power), 30 GND (power), 31 GND (power), 33 GND (power), 34 VBAT (power), 35 VBAT (power), 36 GND (power), 37 GND (power), 39 PWRKEY (power), 40 VDD_EXT
part A text: Serial port; Audio interfaces; SIM card interface; Debug interface; Antenna interface; GPIO

## SIM_HOLDER
designator *
footprint SIM_HOLDER
pins: 1 Vcc (power), 2 ~{RST}, 3 CLK, 4 GND (power), 5 VPP (power), 6 IO

## SIM_HOLDER_NANOSIM
designator *
footprint SIM HOLDER NANO 6P
pins: C1 Vcc (power), C2 ~{RST}, C3 CLK, C5 GND (power), C6 VPP (power), C7 IO

## SL353LT
designator *
footprint SOT23
pins: 1 VCC, 2 OUT, 3 GND

## SLIMSTACK_20
designator *
footprint SlimStack 502430-20
footprint SlimStack 502426-20
pins: 1, 2, 3, 4, 5, 6, 7, 8, 9, 10, 11, 12, 13, 14, 15, 16, 17, 18, 19, 20, S

## SLIMSTACK_40
designator *
footprint SlimStack 502426-40
footprint SlimStack 502430-40
pins: 1, 2, 3, 4, 5, 6, 7, 8, 9, 10, 11, 12, 13, 14, 15, 16, 17, 18, 19, 20, 21, 22, 23, 24, 25, 26, 27, 28, 29, 30, 31, 32, 33, 34, 35, 36, 37, 38, 39, 40, S

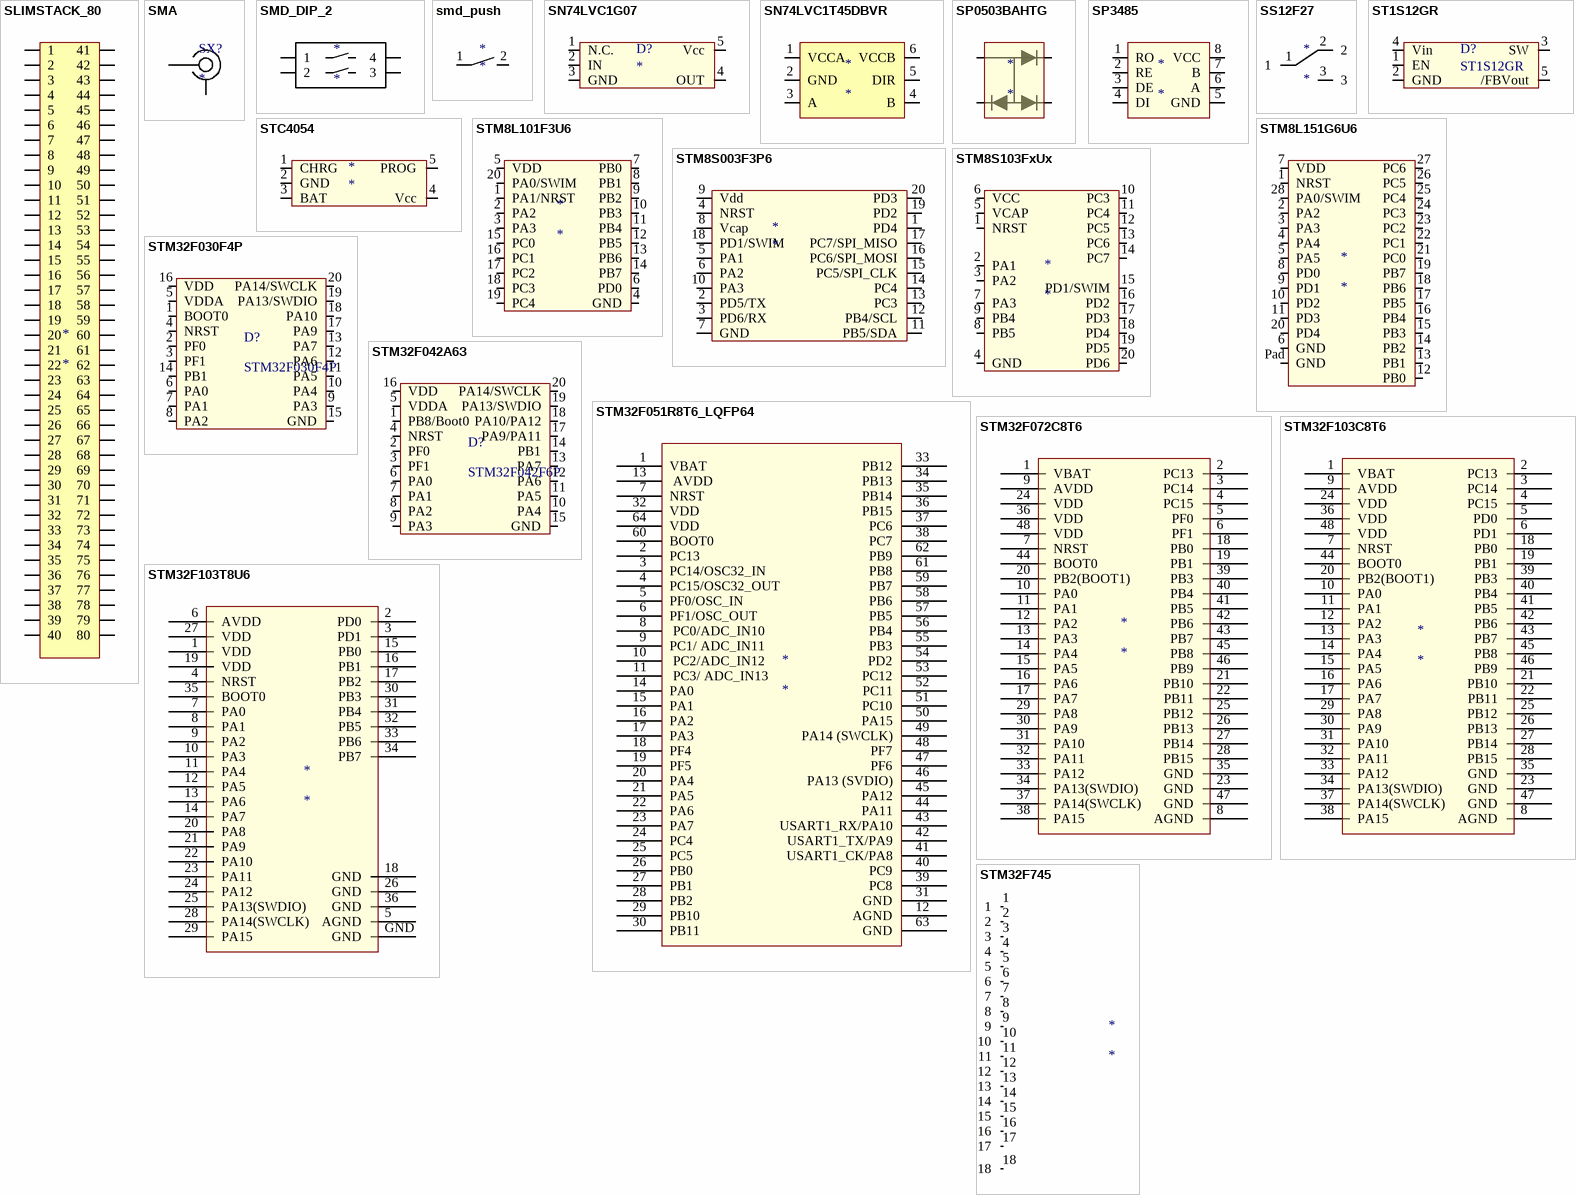
[diagram p4: symbols SLIMSTACK_80 to STM32F745]

## SLIMSTACK_80
designator *
footprint SlimStack 502430-80 (Hor)
pins: 1, 2, 3, 4, 5, 6, 7, 8, 9, 10, 11, 12, 13, 14, 15, 16, 17, 18, 19, 20, 21, 22, 23, 24, 25, 26, 27, 28, 29, 30, 31, 32, 33, 34, 35, 36, 37, 38, 39, 40, 41, 42, 43, 44, 45, 46, 47, 48, 49, 50, 51, 52, 53, 54, 55, 56, 57, 58, 59, 60, 61, 62, 63, 64, 65, 66, 67, 68, 69, 70, 71, 72, 73, 74, 75, 76, 77, 78, 79, 80

## SMA
designator SX?
footprint SMA(2734120110)
pins: ANT 42, GND ANT

## SMD_DIP_2
designator *
footprint SMD_DIP_2
pins: 1, 2, 3, 4

## smd_push
designator *
footprint smd_push
footprint SMD_PUSH_BUTTON_3X4X2
footprint RECT_SMD_Button_08
pins: 1, 2

## SN74LVC1G07
designator D?
footprint SOT23-5
pins: 1 N.C., 2 IN, 3 GND, 4 OUT, 5 Vcc

## SN74LVC1T45DBVR
designator *
footprint SOT23-6
pins: 1 VCCA, 2 GND, 3 A, 4 B, 5 DIR, 6 VCCB

## SP0503BAHTG
designator *
footprint SOT143
pins: 1, 2, 3, 4

## SP3485
designator *
footprint SO8
pins: 1 RO, 2 RE, 3 DE, 4 DI, 5 GND, 6 A, 7 B, 8 VCC

## SS12F27
designator *
footprint SS12F27
pins: 1, 2, 3

## ST1S12GR
designator D?
footprint SOT23-5
pins: 1 EN, 2 GND, 3 SW, 4 Vin, 5 /FBVout

## STC4054
designator *
footprint SOT23-5
pins: 1 CHRG, 2 GND, 3 BAT, 4 Vcc, 5 PROG

## STM8L101F3U6
designator *
footprint UFQFN-20
pins: 1 PA1/NRST, 2 PA2, 3 PA3, 4 GND, 5 VDD, 6 PD0, 7 PB0, 8 PB1, 9 PB2, 10 PB3, 11 PB4, 12 PB5, 13 PB6, 14 PB7, 15 PC0, 16 PC1, 17 PC2, 18 PC3, 19 PC4, 20 PA0/SWIM

## STM8L151G6U6
designator *
footprint UFQFN28
pins: 1 NRST, 2 PA2, 3 PA3, 4 PA4, 5 PA5, 6 GND, 7 VDD, 8 PD0, 9 PD1, 10 PD2, 11 PD3, 12 PB0, 13 PB1, 14 PB2, 15 PB3, 16 PB4, 17 PB5, 18 PB6, 19 PB7, 20 PD4, 21 PC0, 22 PC1, 23 PC2, 24 PC3, 25 PC4, 26 PC5, 27 PC6, 28 PA0/SWIM, Pad GND

## STM8S003F3P6
designator *
footprint TSSOP20
pins: 1 PD4, 2 PD5/TX, 3 PD6/RX, 4 NRST, 5 PA1, 6 PA2, 7 GND, 8 Vcap, 9 Vdd, 10 PA3, 11 PB5/SDA, 12 PB4/SCL, 13 PC3, 14 PC4, 15 PC5/SPI_CLK, 16 PC6/SPI_MOSI, 17 PC7/SPI_MISO, 18 PD1/SWIM, 19 PD2, 20 PD3

## STM8S103FxUx
designator *
footprint UFQFN-20
pins: 1 NRST, 2 PA1, 3 PA2, 4 GND, 5 VCAP, 6 VCC, 7 PA3, 8 PB5, 9 PB4, 10 PC3, 11 PC4, 12 PC5, 13 PC6, 14 PC7, 15 PD1/SWIM, 16 PD2, 17 PD3, 18 PD4, 19 PD5, 20 PD6

## STM32F030F4P
designator D?
footprint TSSOP20
pins: 1 BOOT0, 2 PF0, 3 PF1, 4 NRST, 5 VDDA, 6 PA0, 7 PA1, 8 PA2, 9 PA3, 10 PA4, 11 PA5, 12 PA6, 13 PA7, 14 PB1, 15 GND, 16 VDD, 17 PA9, 18 PA10, 19 PA13/SWDIO, 20 PA14/SWCLK

## STM32F042А6З
designator D?, comment STM32F042F6P
footprint TSSOP20
pins: 1 PB8/Boot0, 2 PF0, 3 PF1, 4 NRST, 5 VDDA, 6 PA0, 7 PA1, 8 PA2, 9 PA3, 10 PA4, 11 PA5, 12 PA6, 13 PA7, 14 PB1, 15 GND, 16 VDD, 17 PA9/PA11, 18 PA10/PA12, 19 PA13/SWDIO, 20 PA14/SWCLK

## STM32F051R8T6_LQFP64
designator *
footprint STM32F0
pins: 1 VBAT, 2 PC13, 3 PC14/OSC32_IN, 4 PC15/OSC32_OUT, 5 PF0/OSC_IN, 6 PF1/OSC_OUT, 7 NRST, 8  PC0/ADC_IN10, 9 PC1/ ADC_IN11, 10  PC2/ADC_IN12, 11  PC3/ ADC_IN13, 12 AGND, 13  AVDD, 14 PA0, 15 PA1, 16 PA2, 17 PA3, 18 PF4, 19 PF5, 20 PA4, 21 PA5, 22 PA6, 23 PA7, 24 PC4, 25 PC5, 26 PB0, 27 PB1, 28 PB2, 29 PB10, 30 PB11, 31 GND, 32 VDD, 33 PB12, 34 PB13, 35 PB14, 36 PB15, 37 PC6, 38 PC7, 39 PC8, 40 PC9, 41 USART1_CK/PA8, 42 USART1_TX/PA9, 43 USART1_RX/PA10, 44 PA11, 45 PA12, 46 PA13 (SVDIO), 47 PF6, 48 PF7, 49 PA14 (SWCLK), 50 PA15, 51 PC10, 52 PC11, 53 PC12, 54 PD2, 55 PB3, 56 PB4, 57 PB5, 58 PB6, 59 PB7, 60 BOOT0, 61 PB8, 62 PB9, 63 GND, 64 VDD

## STM32F072C8T6
designator *
footprint LQFP48
pins: 1 VBAT, 2 PC13, 3 PC14, 4 PC15, 5 PF0, 6 PF1, 7 NRST, 8 AGND, 9 AVDD, 10 PA0, 11 PA1, 12 PA2, 13 PA3, 14 PA4, 15 PA5, 16 PA6, 17 PA7, 18 PB0, 19 PB1, 20 PB2(BOOT1), 21 PB10, 22 PB11, 23 GND, 24 VDD, 25 PB12, 26 PB13, 27 PB14, 28 PB15, 29 PA8, 30 PA9, 31 PA10, 32 PA11, 33 PA12, 34 PA13(SWDIO), 35 GND, 36 VDD, 37 PA14(SWCLK), 38 PA15, 39 PB3, 40 PB4, 41 PB5, 42 PB6, 43 PB7, 44 BOOT0, 45 PB8, 46 PB9, 47 GND, 48 VDD

## STM32F103C8T6
designator *
footprint LQFP48
pins: 1 VBAT, 2 PC13, 3 PC14, 4 PC15, 5 PD0, 6 PD1, 7 NRST, 8 AGND, 9 AVDD, 10 PA0, 11 PA1, 12 PA2, 13 PA3, 14 PA4, 15 PA5, 16 PA6, 17 PA7, 18 PB0, 19 PB1, 20 PB2(BOOT1), 21 PB10, 22 PB11, 23 GND, 24 VDD, 25 PB12, 26 PB13, 27 PB14, 28 PB15, 29 PA8, 30 PA9, 31 PA10, 32 PA11, 33 PA12, 34 PA13(SWDIO), 35 GND, 36 VDD, 37 PA14(SWCLK), 38 PA15, 39 PB3, 40 PB4, 41 PB5, 42 PB6, 43 PB7, 44 BOOT0, 45 PB8, 46 PB9, 47 GND, 48 VDD

## STM32F103T8U6
designator *
footprint VFQFPN36
pins: 1 VDD, 2 PD0, 3 PD1, 4 NRST, 5 AGND, 6 AVDD, 7 PA0, 8 PA1, 9 PA2, 10 PA3, 11 PA4, 12 PA5, 13 PA6, 14 PA7, 15 PB0, 16 PB1, 17 PB2, 18 GND, 19 VDD, 20 PA8, 21 PA9, 22 PA10, 23 PA11, 24 PA12, 25 PA13(SWDIO), 26 GND, 27 VDD, 28 PA14(SWCLK), 29 PA15, 30 PB3, 31 PB4, 32 PB5, 33 PB6, 34 PB7, 35 BOOT0, 36 GND, GND

## STM32F745
designator *
pins: 1, 2, 3, 4, 5, 6, 7, 8, 9, 10, 11, 12, 13, 14, 15, 16, 17, 18

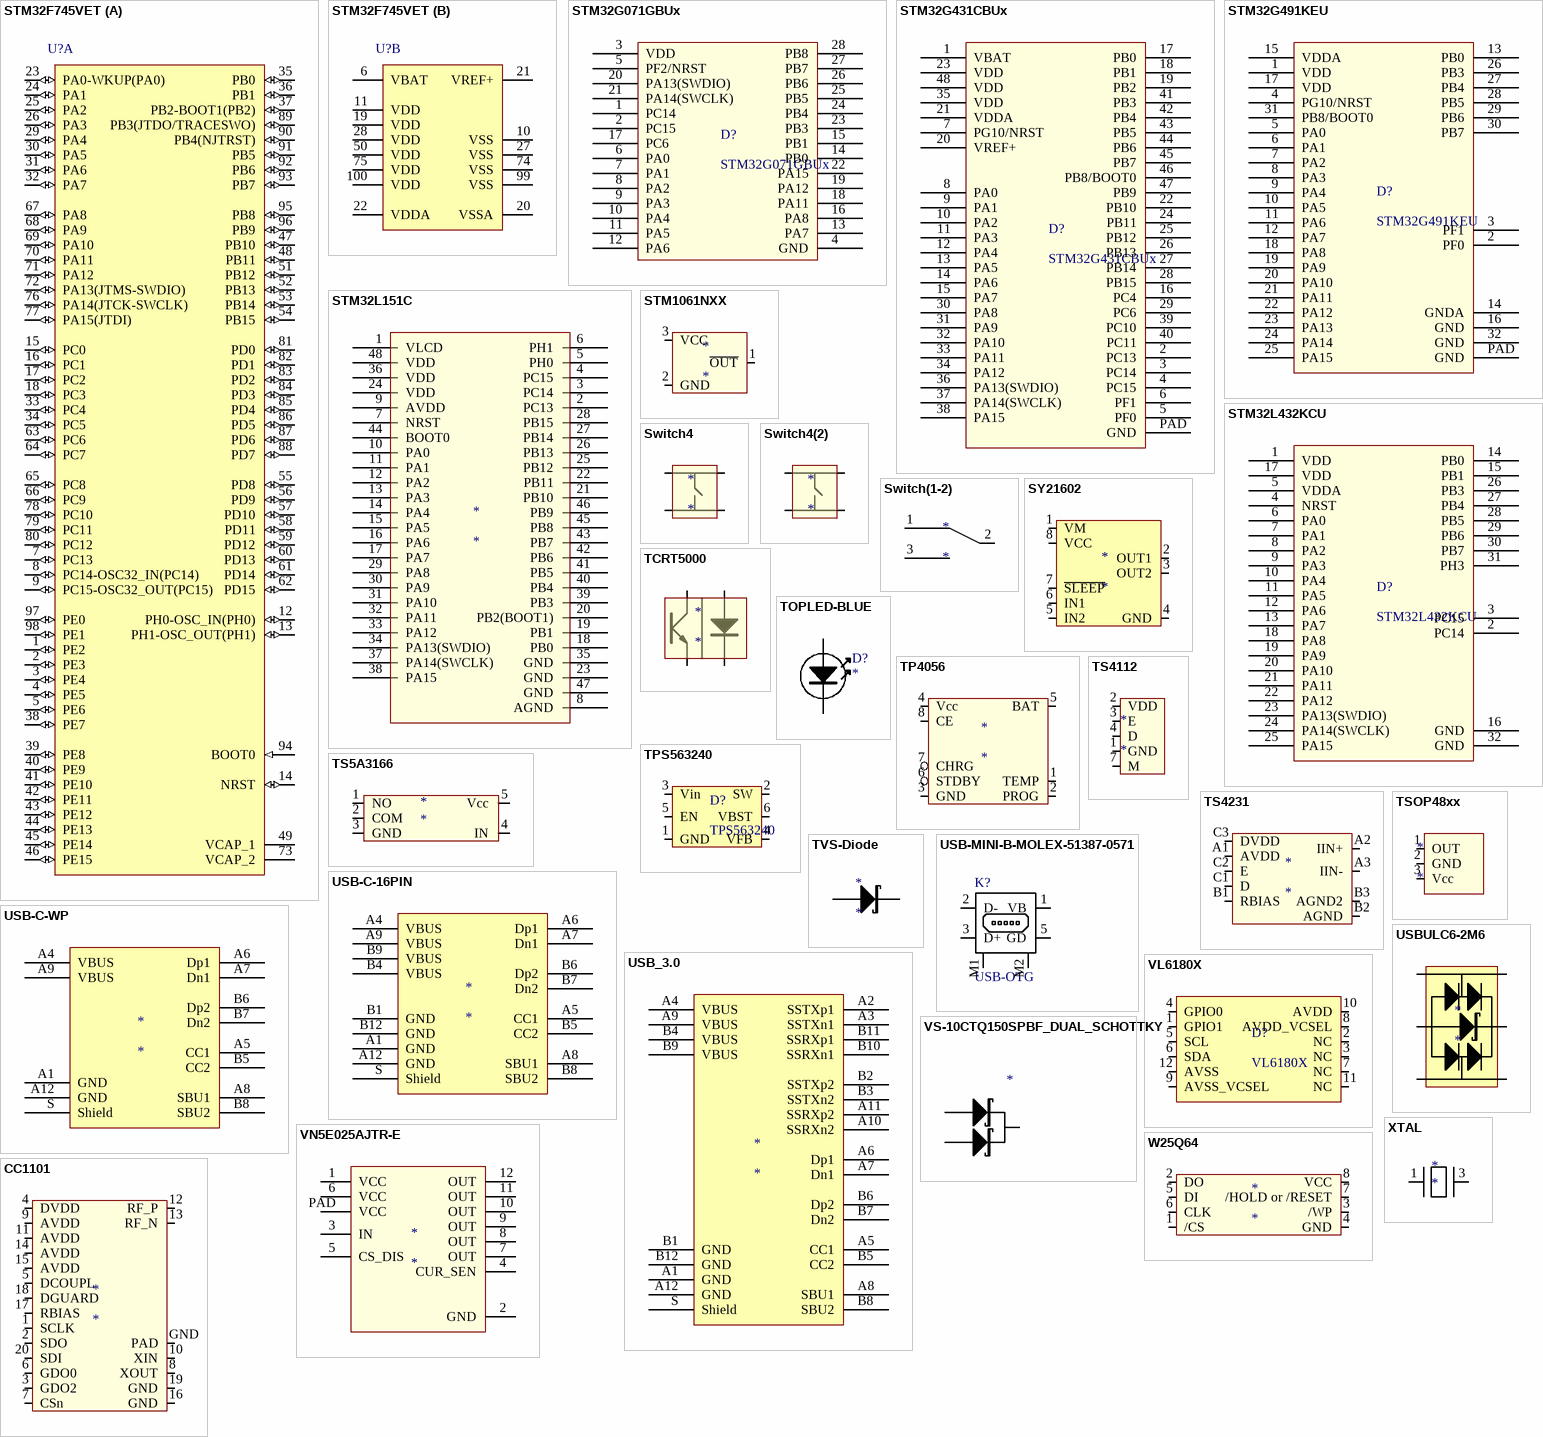
[diagram p5: symbols STM32F745VET to СС1101]

## STM32F745VET
designator U?
ARM Cortex-M7 32-bit MCU+FPU, 225 DMIPS, 2048 kB Flash, 256 kB Internal RAM, 82 I/Os, 100-pin LQFP, -40 to 85 degC, Tray; Manufacturer: STMicroelectronics; PartNumber: STM32F439VIT6U; Core: ARM Cortex-M4; D/A Converter: 2x12-bit; FLASH Size (Prog) (kB): 2048; I/Os (High Current): 82; Internal RAM Size (kB): 256; Operating Frequency(F) (Processor speed) (MHz): 180; Supply Voltage(Vcc) max (V): 3.6; Supply Voltage(Vcc) min (V): 1.8; DatasheetVersion: Rev. 2; PackageVersion: Rev. 1, 06/2013; PackageReference: LQFP100; PackageDescription: 100-Pin Low Profile Quad Flat Package, 14 x 14 mm Body, 0.5 mm Pitch; Supplier 1: Mouser; Supplier Part Number 1: N/A; Packing: Tray; Mounting Technology: Surface Mount; ComponentLink1Description: Manufacturer URL; ComponentLink1URL: http://www.st.com/web/en/home.html; ComponentLink2Description: Datasheet; ComponentLink2URL: http://www.st.com/st-web-ui/static/active/en/resource/technical/document/data_brief/DM00055510.pdf; ComponentLink3Description: Package Specification; ComponentLink3URL: http://www.st.com/st-web-ui/static/active/en/resource/technical/document/data_brief/DM00071938.pdf
footprint LQFP100_V (Thin QFP, 100-Leads, Body 14x14mm, Pitch 0.5mm, ST Recommended)
part A pins: 1 PE2 (io) "PE2/TRACECLK,SPI4_SCK,SAI1_MCLK_A,ETH_MII_TXD3,FMC_A23,EVENTOUT", 2 PE3 (io) "PE3/TRACED0,SAI1_SD_B,FMC_A19,EVENTOUT", 3 PE4 (io) "PE4/TRACED1,SPI4_NSS,SAI1_FS_A,FMC_A20,DCMI_D4,LCD_B0,EVENTOUT", 4 PE5 (io) "PE5/TRACED2,TIM9_CH1,SPI4_MISO,SAI1_SCK_A,FMC_A21,DCMI_D6,LCD_G0,EVENTOUT", 5 PE6 (io) "PE6/TRACED3,TIM9_CH2,SPI4_MOSI,SAI1_SD_A,FMC_A22,DCMI_D7,LCD_G1,EVENTOUT", 7 PC13 (io) "PC13/EVENTOUT/TAMP_1", 8 PC14-OSC32_IN(PC14) (io) "PC14-OSC32_IN(PC14)/EVENTOUT/OSC32_IN", 9 PC15-OSC32_OUT(PC15) (io) "PC15-OSC32_OUT(PC15)/EVENTOUT/OSC32_OUT", 12 PH0-OSC_IN(PH0) (io) "PH0-OSC_IN(PH0)/EVENTOUT/OSC_IN", 13 PH1-OSC_OUT(PH1) (io) "PH1-OSC_OUT(PH1)/EVENTOUT/OSC_OUT", 14 NRST (io), 15 PC0 (io) "PC0/OTG_HS_ULPI_STP,FMC_SDNWE,EVENTOUT/ADC123_IN10", 16 PC1 (io) "PC1/ETH_MDC,EVENTOUT/ADC123_IN11", 17 PC2 (io) "PC2/SPI2_MISO,I2S2ext_SD,OTG_HS_ULPI_DIR,ETH_MII_TXD2,FMC_SDNE0,EVENTOUT/ADC123_IN12", 18 PC3 (io) "PC3/SPI2_MOSI/I2S2_SD,OTG_HS_ULPI_NXT,ETH_MII_TX_CLK,FMC_SDCKE0,EVENTOUT/ADC123_IN13", 23 PA0-WKUP(PA0) (io) "PA0-WKUP(PA0)/TIM2_CH1/TIM2_ETR,TIM5_CH1,TIM8_ETR,USART2_CTS,UART4_TX,ETH_MII_CRS,EVENTOUT/ADC123_IN0/WKUP", 24 PA1 (io) "PA1/TIM2_CH2,TIM5_CH2,USART2_RTS,UART4_RX,ETH_MII_RX_CLK/ETH_RMII_REF_CLK,EVENTOUT/ADC123_IN1", 25 PA2 (io) "PA2/TIM2_CH3,TIM5_CH3,TIM9_CH1,USART2_TX,ETH_MDIO,EVENTOUT/ADC123_IN2", 26 PA3 (io) "PA3/TIM2_CH4,TIM5_CH4,TIM9_CH2,USART2_RX,OTG_HS_ULPI_D0,ETH_MII_COL,LCD_B5,EVENTOUT/ADC123_IN3", 29 PA4 (io) "PA4/SPI1_NSS,SPI3_NSS/I2S3_WS,USART2_CK,OTG_HS_SOF,DCMI_HSYNC,LCD_VSYNC,EVENTOUT/ADC12_IN4/DAC_OUT1", 30 PA5 (io) "PA5/TIM2_CH1/TIM2_ETR,TIM8_CH1N,SPI1_SCK,OTG_HS_ULPI_CK,EVENTOUT/ADC12_IN5/DAC_OUT2", 31 PA6 (io) "PA6/TIM1_BKIN,TIM3_CH1,TIM8_BKIN,SPI1_MISO,TIM13_CH1,DCMI_PIXCLK,LCD_G2,EVENTOUT/ADC12_IN6", 32 PA7 (io) "PA7/TIM1_CH1N,TIM3_CH2,TIM8_CH1N,SPI1_MOSI,TIM14_CH1,ETH_MII_RX_DV/ETH_RMII_CRS_DV,EVENTOUT/ADC12_IN7", 33 PC4 (io) "PC4/ETH_MII_RXD0/ETH_RMII_RXD0,EVENTOUT/ADC12_IN14", 34 PC5 (io) "PC5/ETH_MII_RXD1/ETH_RMII_RXD1,EVENTOUT/ADC12_IN15", 35 PB0 (io) "PB0/TIM1_CH2N,TIM3_CH3,TIM8_CH2N,LCD_R3,OTG_HS_ULPI_D1,ETH_MII_RXD2,EVENTOUT/ADC12_IN8", 36 PB1 (io) "PB1/TIM1_CH3N,TIM3_CH4,TIM8_CH3N,LCD_R6,OTG_HS_ULPI_D2,ETH_MII_RXD3,EVENTOUT/ADC12_IN9", 37 PB2-BOOT1(PB2) (io) "PB2-BOOT1(PB2)/EVENTOUT", 38 PE7 (io) "PE7/TIM1_ETR,UART7_RX,FMC_D4,EVENTOUT", 39 PE8 (io) "PE8/TIM1_CH1N,UART7_TX,FMC_D5,EVENTOUT", 40 PE9 (io) "PE9/TIM1_CH1,FMC_D6,EVENTOUT", 41 PE10 (io) "PE10/TIM1_CH2N,FMC_D7,EVENTOUT", 42 PE11 (io) "PE11/TIM1_CH2,SPI4_NSS,FMC_D8,LCD_G3,EVENTOUT", 43 PE12 (io) "PE12/TIM1_CH3N,SPI4_SCK,FMC_D9,LCD_B4,EVENTOUT", 44 PE13 (io) "PE13/TIM1_CH3,SPI4_MISO,FMC_D10,LCD_DE,EVENTOUT", 45 PE14 (io) "PE14/TIM1_CH4,SPI4_MOSI,FMC_D11,LCD_CLK,EVENTOUT", 46 PE15 (io) "PE15/TIM1_BKIN,FMC_D12,LCD_R7,EVENTOUT", 47 PB10 (io) "PB10/TIM2_CH3,I2C2_SCL,SPI2_SCK/I2S2_CK,USART3_TX,OTG_HS_ULPI_D3,ETH_MII_RX_ER,LCD_G4,EVENTOUT", 48 PB11 (io) "PB11/TIM2_CH4,I2C2_SDA,USART3_RX,OTG_HS_ULPI_D4,ETH_MII_TX_EN/ETH_RMII_TX_EN,LCD_G5,EVENTOUT", 49 VCAP_1 (power), 51 PB12 (io) "PB12/TIM1_BKIN,I2C2_SMBA,SPI2_NSS/I2S2_WS,USART3_CK,CAN2_RX,OTG_HS_ULPI_D5,ETH_MII_TXD0/ETH_RMII_TXD0,OTG_HS_ID,EVENTOUT", 52 PB13 (io) "PB13/TIM1_CH1N,SPI2_SCK/I2S2_CK,USART3_CTS,CAN2_TX,OTG_HS_ULPI_D6,ETH_MII_TXD1/ETH_RMII_TXD1,EVENTOUT/OTG_HS_VBUS", 53 PB14 (io) "PB14/TIM1_CH2N,TIM8_CH2N,SPI2_MISO,I2S2ext_SD,USART3_RTS,TIM12_CH1,EVENTOUT/OTG_HS_DM", 54 PB15 (io) "PB15/RTC_REFIN,TIM1_CH3N,TIM8_CH3N,SPI2_MOSI/I2S2_SD,TIM12_CH2,EVENTOUT/OTG_HS_DP", 55 PD8 (io) "PD8/USART3_TX,FMC_D13,EVENTOUT", 56 PD9 (io) "PD9/USART3_RX,FMC_D14,EVENTOUT", 57 PD10 (io) "PD10/USART3_CK,FMC_D15,LCD_B3,EVENTOUT", 58 PD11 (io) "PD11/USART3_CTS,FMC_A16,EVENTOUT", 59 PD12 (io) "PD12/TIM4_CH1,USART3_RTS,FMC_A17,EVENTOUT", 60 PD13 (io) "PD13/TIM4_CH2,FMC_A18,EVENTOUT", 61 PD14 (io) "PD14/TIM4_CH3,FMC_D0,EVENTOUT", 62 PD15 (io) "PD15/TIM4_CH4,FMC_D1,EVENTOUT", 63 PC6 (io) "PC6/TIM3_CH1,TIM8_CH1,I2S2_MCK,USART6_TX,SDIO_D6,DCMI_D0,LCD_HSYNC,EVENTOUT", 64 PC7 (io) "PC7/TIM3_CH2,TIM8_CH2,I2S3_MCK,USART6_RX,SDIO_D7,DCMI_D1,LCD_G6,EVENTOUT", 65 PC8 (io) "PC8/TIM3_CH3,TIM8_CH3,USART6_CK,SDIO_D0,DCMI_D2,EVENTOUT", 66 PC9 (io) "PC9/MCO2,TIM3_CH4,TIM8_CH4,I2C3_SDA,I2S_CKIN,SDIO_D1,DCMI_D3,EVENTOUT", 67 PA8 (io) "PA8/MCO1,TIM1_CH1,I2C3_SCL,USART1_CK,OTG_FS_SOF,LCD_R6,EVENTOUT", 68 PA9 (io) "PA9/TIM1_CH2,I2C3_SMBA,USART1_TX,DCMI_D0,EVENTOUT/OTG_FS_VBUS", 69 PA10 (io) "PA10/TIM1_CH3,USART1_RX,OTG_FS_ID,DCMI_D1,EVENTOUT", 70 PA11 (io) "PA11/TIM1_CH4,USART1_CTS,CAN1_RX,LCD_R4,EVENTOUT/OTG_FS_DM", 71 PA12 (io) "PA12/TIM1_ETR,USART1_RTS,CAN1_TX,LCD_R5,EVENTOUT/OTG_FS_DP", 72 PA13(JTMS-SWDIO) (io) "PA13(JTMS-SWDIO)/JTMS-SWDIO,EVENTOUT", 73 VCAP_2 (power), 76 PA14(JTCK-SWCLK) (io) "PA14(JTCK-SWCLK)/JTCK-SWCLK/EVENTOUT", 77 PA15(JTDI) (io) "PA15(JTDI)/JTDI,TIM2_CH1/TIM2_ETR,SPI1_NSS,SPI3_NSS/I2S3_WS,EVENTOUT", 78 PC10 (io) "PC10/SPI3_SCK/I2S3_CK,USART3_TX,UART4_TX,SDIO_D2,DCMI_D8,LCD_R2,EVENTOUT", 79 PC11 (io) "PC11/I2S3ext_SD,SPI3_MISO,USART3_RX,UART4_RX,SDIO_D3,DCMI_D4,EVENTOUT", 80 PC12 (io) "PC12/SPI3_MOSI/I2S3_SD,USART3_CK,UART5_TX,SDIO_CK,DCMI_D9,EVENTOUT", 81 PD0 (io) "PD0/CAN1_RX,FMC_D2,EVENTOUT", 82 PD1 (io) "PD1/CAN1_TX,FMC_D3,EVENTOUT", 83 PD2 (io) "PD2/TIM3_ETR,UART5_RX,SDIO_CMD,DCMI_D11,EVENTOUT", 84 PD3 (io) "PD3/SPI2_SCK/I2S2_CK,USART2_CTS,FMC_CLK,DCMI_D5,LCD_G7,EVENTOUT", 85 PD4 (io) "PD4/USART2_RTS,FMC_NOE,EVENTOUT", 86 PD5 (io) "PD5/USART2_TX,FMC_NWE,EVENTOUT", 87 PD6 (io) "PD6/SPI3_MOSI/I2S3_SD,SAI1_SD_A,USART2_RX,FMC_NWAIT,DCMI_D10,LCD_B2,EVENTOUT", 88 PD7 (io) "PD7/USART2_CK,FMC_NE1/FMC_NCE2,EVENTOUT", 89 PB3(JTDO/TRACESWO) (io) "PB3(JTDO/TRACESWO)/JTDO/TRACESWO,TIM2_CH2,SPI1_SCK,SPI3_SCK/I2S3_CK,EVENTOUT", 90 PB4(NJTRST) (io) "PB4(NJTRST)/NJTRST,TIM3_CH1,SPI1_MISO,SPI3_MISO,I2S3ext_SD,EVENTOUT", 91 PB5 (io) "PB5/TIM3_CH2,I2C1_SMBA,SPI1_MOSI,SPI3_MOSI/I2S3_SD,CAN2_RX,OTG_HS_ULPI_D7,ETH_PPS_OUT,FMC_SDCKE1,DCMI_D10,EVENTOUT", 92 PB6 (io) "PB6/TIM4_CH1,I2C1_SCL,USART1_TX,CAN2_TX,FMC_SDNE1,DCMI_D5,EVENTOUT", 93 PB7 (io) "PB7/TIM4_CH2,I2C1_SDA,USART1_RX,FMC_NL,DCMI_VSYNC,EVENTOUT", 94 BOOT0 (in) "BOOT0/VPP", 95 PB8 (io) "PB8/TIM4_CH3,TIM10_CH1,I2C1_SCL,CAN1_RX,ETH_MII_TXD3,SDIO_D4,DCMI_D6,LCD_B6,EVENTOUT", 96 PB9 (io) "PB9/TIM4_CH4,TIM11_CH1,I2C1_SDA,SPI2_NSS/I2S2_WS,CAN1_TX,SDIO_D5,DCMI_D7,LCD_B7,EVENTOUT", 97 PE0 (io) "PE0/TIM4_ETR,UART8_RX,FMC_NBL0,DCMI_D2,EVENTOUT", 98 PE1 (io) "PE1/UART8_TX,FMC_NBL1,DCMI_D3,EVENTOUT"
part B pins: 6 VBAT (power), 10 VSS (power), 11 VDD (power), 19 VDD (power), 20 VSSA (power), 21 VREF+ (power), 22 VDDA (power), 27 VSS (power), 28 VDD (power), 50 VDD (power), 74 VSS (power), 75 VDD (power), 99 VSS (power), 100 VDD (power)

## STM32G071GBUx
designator D?
footprint UFQFPN28
pins: 1 PC14, 2 PC15, 3 VDD, 4 GND, 5 PF2/NRST, 6 PA0, 7 PA1, 8 PA2, 9 PA3, 10 PA4, 11 PA5, 12 PA6, 13 PA7, 14 PB0, 15 PB1, 16 PA8, 17 PC6, 18 PA11, 19 PA12, 20 PA13(SWDIO), 21 PA14(SWCLK), 22 PA15, 23 PB3, 24 PB4, 25 PB5, 26 PB6, 27 PB7, 28 PB8

## STM32G431CBUx
designator D?
footprint UFQFPN48
pins: 1 VBAT, 2 PC13, 3 PC14, 4 PC15, 5 PF0, 6 PF1, 7 PG10/NRST, 8 PA0, 9 PA1, 10 PA2, 11 PA3, 12 PA4, 13 PA5, 14 PA6, 15 PA7, 16 PC4, 17 PB0, 18 PB1, 19 PB2, 20 VREF+, 21 VDDA, 22 PB10, 23 VDD, 24 PB11, 25 PB12, 26 PB13, 27 PB14, 28 PB15, 29 PC6, 30 PA8, 31 PA9, 32 PA10, 33 PA11, 34 PA12, 35 VDD, 36 PA13(SWDIO), 37 PA14(SWCLK), 38 PA15, 39 PC10, 40 PC11, 41 PB3, 42 PB4, 43 PB5, 44 PB6, 45 PB7, 46 PB8/BOOT0, 47 PB9, 48 VDD, PAD GND

## STM32G491KEU
designator D?
footprint UFQFPN32
pins: 1 VDD, 2 PF0, 3 PF1, 4 PG10/NRST, 5 PA0, 6 PA1, 7 PA2, 8 PA3, 9 PA4, 10 PA5, 11 PA6, 12 PA7, 13 PB0, 14 GNDA, 15 VDDA, 16 GND, 17 VDD, 18 PA8, 19 PA9, 20 PA10, 21 PA11, 22 PA12, 23 PA13, 24 PA14, 25 PA15, 26 PB3, 27 PB4, 28 PB5, 29 PB6, 30 PB7, 31 PB8/BOOT0, 32 GND, PAD GND

## STM32L151C
designator *
footprint UFQFPN48
pins: 1 VLCD, 2 PC13, 3 PC14, 4 PC15, 5 PH0, 6 PH1, 7 NRST, 8 AGND, 9 AVDD, 10 PA0, 11 PA1, 12 PA2, 13 PA3, 14 PA4, 15 PA5, 16 PA6, 17 PA7, 18 PB0, 19 PB1, 20 PB2(BOOT1), 21 PB10, 22 PB11, 23 GND, 24 VDD, 25 PB12, 26 PB13, 27 PB14, 28 PB15, 29 PA8, 30 PA9, 31 PA10, 32 PA11, 33 PA12, 34 PA13(SWDIO), 35 GND, 36 VDD, 37 PA14(SWCLK), 38 PA15, 39 PB3, 40 PB4, 41 PB5, 42 PB6, 43 PB7, 44 BOOT0, 45 PB8, 46 PB9, 47 GND, 48 VDD

## STM32L432KCU
designator D?
footprint UFQFPN32
pins: 1 VDD, 2 PC14, 3 PC15, 4 NRST, 5 VDDA, 6 PA0, 7 PA1, 8 PA2, 9 PA3, 10 PA4, 11 PA5, 12 PA6, 13 PA7, 14 PB0, 15 PB1, 16 GND, 17 VDD, 18 PA8, 19 PA9, 20 PA10, 21 PA11, 22 PA12, 23 PA13(SWDIO), 24 PA14(SWCLK), 25 PA15, 26 PB3, 27 PB4, 28 PB5, 29 PB6, 30 PB7, 31 PH3, 32 GND

## STM1061NXX
designator *
footprint SOT23
pins: 1 ~{OUT}, 2 GND, 3 VCC

## Switch4
designator *
footprint KLS7
pins: 1, 2, 3, 4

## Switch4(2)
designator *
footprint RECT_SMD_Button_08
pins: 1, 1, 2, 2

## Switch(1-2)
designator *
footprint MTS-102-C3
pins: 1, 2, 3

## SY21602
designator *
footprint DFN82x2
pins: 1 VM, 2 OUT1, 3 OUT2, 4 GND, 5 IN2, 6 IN1, 7 ~{SLEEP}, 8 VCC

## TCRT5000
designator *
footprint TCRT5000
pins: DAnode, DCatode, VTC, VTE

## TOPLED-BLUE
designator D?
TLED; Manufacturer: Kingbright Corp; Manufacturer Part Number: AA3528APBC/A; Supplier 1: Digi-Key; Supplier Part Number 1: 754-1011-2-ND
footprint 0603G (CAPACITOR 0603)
footprint 0805G (CAPACITOR 0805)
pins: 1, 2

## TP4056
designator *
footprint SO8
pins: 1 TEMP, 2 PROG, 3 GND, 4 Vcc, 5 BAT, 6 STDBY, 7 CHRG, 8 CE

## TPS563240
designator D?
footprint SOT23-6
pins: 1 GND, 2 SW, 3 Vin, 4 VFB, 5 EN, 6 VBST

## TS5A3166
designator *
footprint SOT23-5
pins: 1 NO, 2 COM, 3 GND, 4 IN, 5 Vcc

## TS4112
designator *
footprint TS4112
pins: 1 GND, 2 VDD, 3 E, 4 D, 7 M

## TS4231
designator *
footprint DSBGA9
pins: A1 AVDD, A2 IIN+, A3 IIN-, B1 RBIAS, B2 AGND, B3 AGND2, C1 D, C2 E, C3 DVDD

## TSOP48xx
designator *
footprint TSOP48xx
footprint TSOP48xx(-90)
footprint TSOP48XX_SMD_10Deg
pins: 1 OUT, 2 GND, 3 Vcc

## TVS-Diode
designator *
footprint SOD-923
pins: + 13, - 14

## USB-C-16PIN
designator *
footprint USB-C-16PIN-VER
pins: A1 GND, A4 VBUS, A5 CC1, A6 Dp1, A7 Dn1, A8 SBU1, A9 VBUS, A12 GND, B1 GND, B4 VBUS, B5 CC2, B6 Dp2, B7 Dn2, B8 SBU2, B9 VBUS, B12 GND, S Shield

## USB-C-WP
designator *
footprint USB-C-HOR-WP-16(698B116W663-601)
pins: A1 GND, A4 VBUS, A5 CC1, A6 Dp1, A7 Dn1, A8 SBU1, A9 VBUS, A12 GND, B5 CC2, B6 Dp2, B7 Dn2, B8 SBU2, S Shield

## USB-MINI-B-MOLEX-51387-0571
designator K?, comment USB-OTG
MINI USB B DEVICE CONNECTOR MOLEX 51387-0571; Supplier 1: Digi-Key; Supplier Part Number 1: WM5462DKR-ND
footprint USB-MINI-B-51387-0571 (MOLEX 51387-0571)
footprint USB-MINI-B-51387-0571_solder (MOLEX 51387-0571)
pins: 1 VB, 2 D-, 3 D+, 5 GD, M1, M2

## USB_3.0
designator *
footprint USB-C-HOR(1054500101)
pins: A1 GND, A2 SSTXp1, A3 SSTXn1, A4 VBUS, A5 CC1, A6 Dp1, A7 Dn1, A8 SBU1, A9 VBUS, A10 SSRXn2, A11 SSRXp2, A12 GND, B1 GND, B2 SSTXp2, B3 SSTXn2, B4 VBUS, B5 CC2, B6 Dp2, B7 Dn2, B8 SBU2, B9 VBUS, B10 SSRXn1, B11 SSRXp1, B12 GND, S Shield

## USBULC6-2M6
designator *
footprint uQFN6L
pins: 1 D+, 2 GND, 3 D-, 4 D-, 5 VBUS, 6 D+

## VL6180X
designator D?
footprint VL6180X
pins: 1 GPIO1, 2 NC, 3 NC, 4 GPIO0, 5 SCL, 6 SDA, 7 NC, 8 AVDD_VCSEL, 9 AVSS_VCSEL, 10 AVDD, 11 NC, 12 AVSS

## VN5E025AJTR-E
designator *
footprint PowerSSO12
pins: 1 VCC, 2 GND, 3 IN, 4 CUR_SEN, 5 CS_DIS, 6 VCC, 7 OUT, 8 OUT, 9 OUT, 10 OUT, 11 OUT, 12 OUT, PAD VCC

## VS-10CTQ150SPBF_DUAL_SCHOTTKY
designator ?
footprint DPAK
pins: 1 A1, 2 K, 3 A2

## W25Q64
designator *
footprint SOP8
footprint WSON8_6x5 (WSON, 8-Leads, Body 6x5mm, Pitch 1.27mm, Thermal Pad 3.4x4.3mm)
pins: 1 /CS, 2 DO, 3 /WP, 4 GND, 5 DI, 6 CLK, 7 /HOLD or /RESET, 8 VCC

## XTAL
designator *
footprint XTAL
footprint 5032smd
footprint SMD3205
footprint CTS403_3225
footprint ABM10W
footprint ABS06 (2.00mm x 1.20mm)
pins: 1, 3

## СС1101
designator *
footprint VQFN20
pins: 1 SCLK, 2 SDO, 3 GDO2, 4 DVDD, 5 DCOUPL, 6 GDO0, 7 CSn, 8 XOUT, 9 AVDD, 10 XIN, 11 AVDD, 12 RF_P, 13 RF_N, 14 AVDD, 15 AVDD, 16 GND, 17 RBIAS, 18 DGUARD, 19 GND, 20 SDI, GND PAD